# Altium schematic symbol library MH_DA_THU_VIEN_16122016.SchLib: 853 symbols (part 3 of 5)
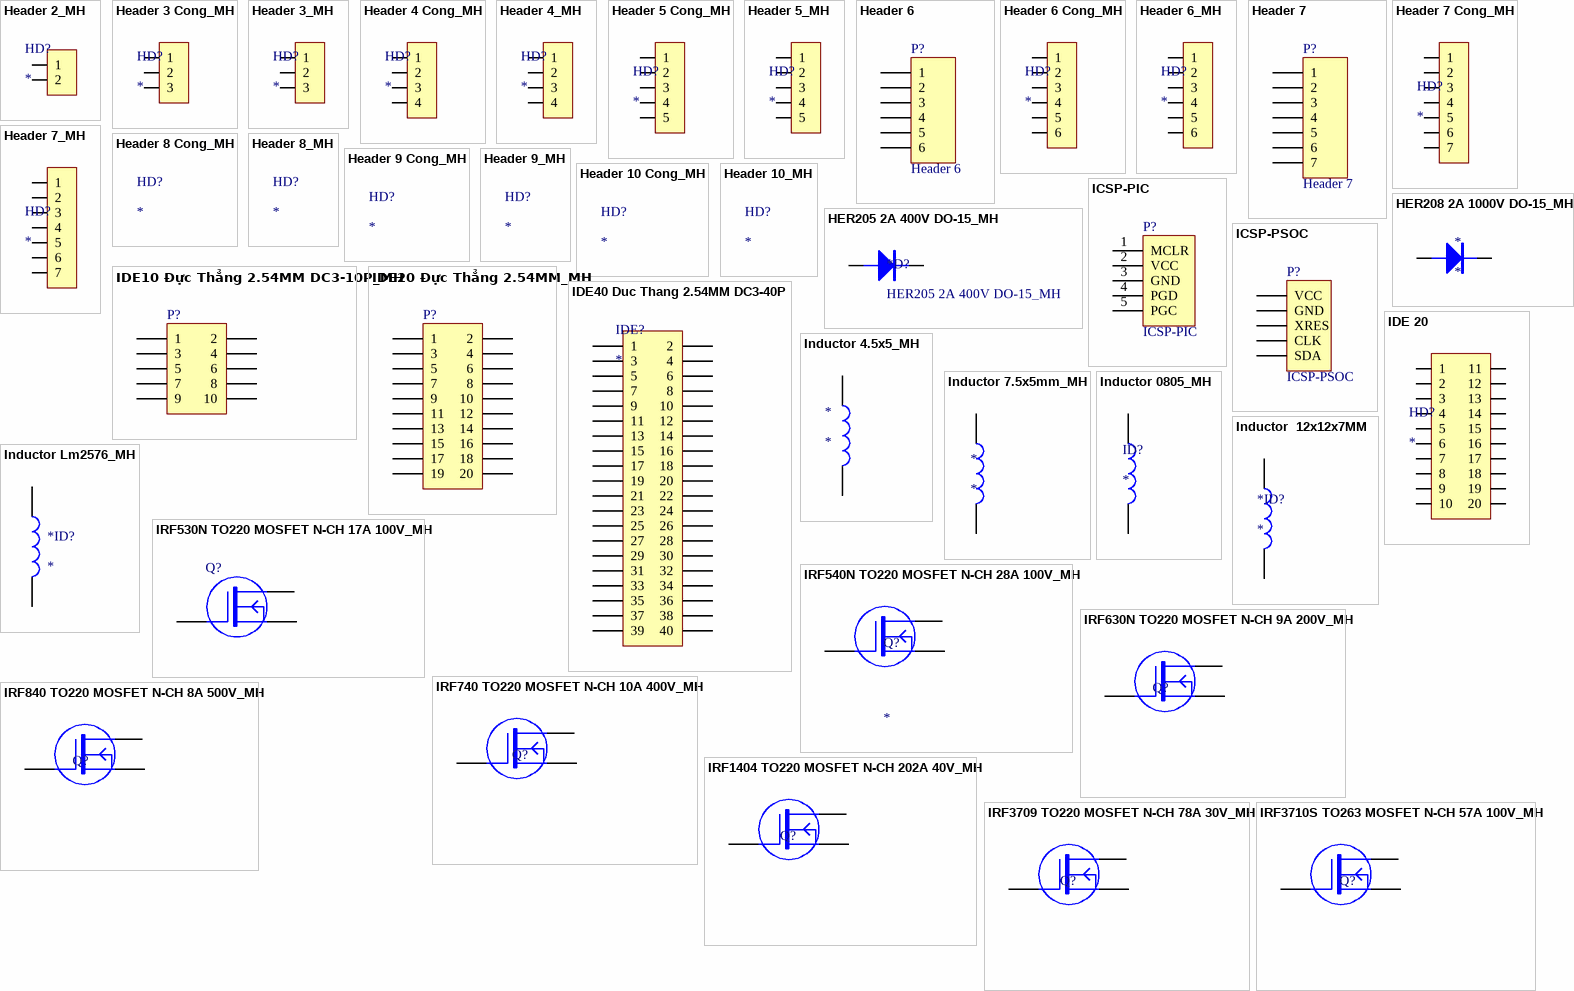
[diagram p42: symbols Header 2_MH to IRF3710S TO263 MOSFET N-CH 57A 100V_MH]

## IRF740 TO220 MOSFET N-CH 10A 400V_MH
designator Q?
footprint G_D_S_TO220
pins: 1 G "1", 2 D, 3 S

## IRF840 TO220 MOSFET N-CH 8A 500V_MH
designator Q?
footprint G_D_S_TO220
pins: 1 G "1", 2 D, 3 S

## IRF1404 TO220 MOSFET N-CH 202A 40V_MH
designator Q?
footprint G_D_S_TO220
pins: 1 G "1", 2 D, 3 S

## IRF3709 TO220 MOSFET N-CH 78A 30V_MH
designator Q?
footprint G_D_S_TO220
pins: 1 G "1", 2 D, 3 S

## IRF3710S TO263 MOSFET N-CH 57A 100V_MH
designator Q?
footprint TO-263
pins: 1 G "1", 2 D, 3 S

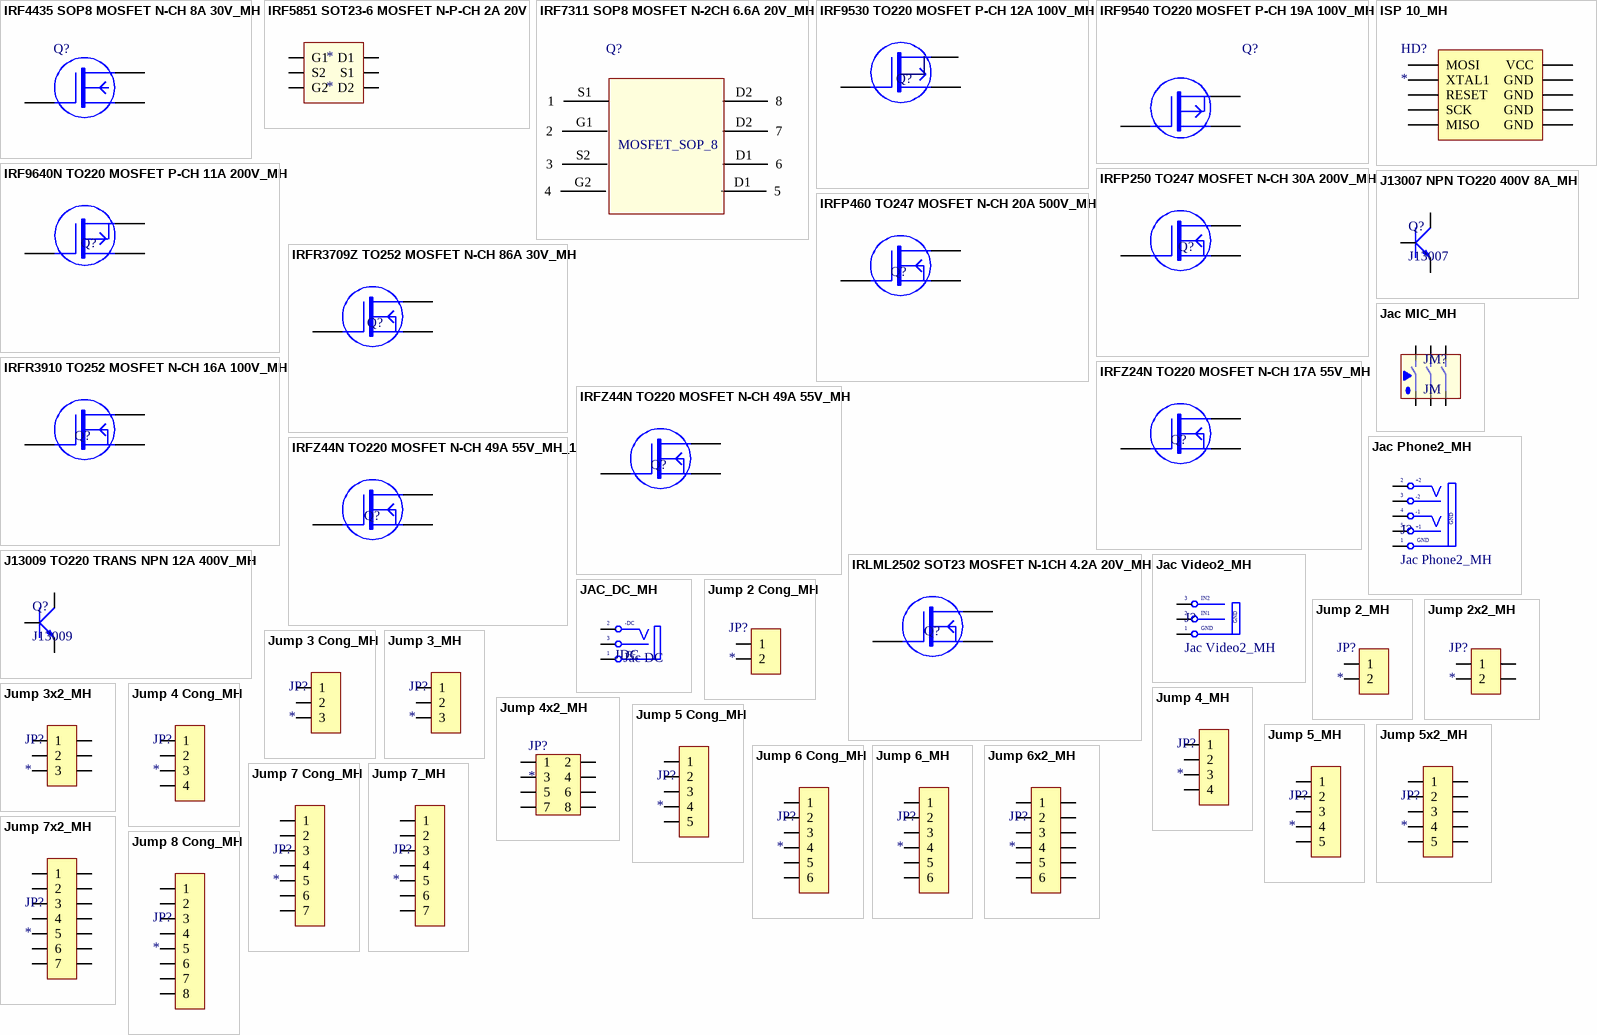
[diagram p17: symbols IRF4435 SOP8 MOSFET N-CH 8A 30V_MH to Jump 8 Cong_MH]

## IRF4435 SOP8 MOSFET N-CH 8A 30V_MH
designator Q?
footprint SOP 8
pins: 1 G "1", 2 D, 3 S

## IRF5851 SOT23-6 MOSFET N-P-CH 2A 20V
designator *
footprint SOP23-6
pins: 1 G1, 2 S2, 3 G2, 6 D2, 8 D1, ?1 S1

## IRF7311 SOP8 MOSFET N-2CH 6.6A 20V_MH
designator Q?
footprint SOP 8
pins: D1 5, D1 6, D2 7, D2 8, G1 2, G2 4, S1 1, S2 3
text: MOSFET_SOP_8

## IRF9530 TO220 MOSFET P-CH 12A 100V_MH
designator Q?
footprint G_D_S_TO220
pins: 1 G "1", 2 D, 3 S

## IRF9540 TO220 MOSFET P-CH 19A 100V_MH
designator Q?
footprint G_D_S_TO220
pins: 1 G "1", 2 D, 3 S

## IRF9640N TO220 MOSFET P-CH 11A 200V_MH
designator Q?
footprint G_D_S_TO220
pins: 1 G "1", 2 D, 3 S

## IRFP250 TO247 MOSFET N-CH 30A 200V_MH
designator Q?
footprint G_D_S_TO247.
pins: 1 G "1", 2 D, 3 S

## IRFP460 TO247 MOSFET N-CH 20A 500V_MH
designator Q?
footprint G_D_S_TO247.
pins: 1 G "1", 2 D, 3 S

## IRFR3709Z TO252 MOSFET N-CH 86A 30V_MH
designator Q?
footprint TO-263
pins: 1 G "1", 2 D, 3 S

## IRFR3910 TO252 MOSFET N-CH 16A 100V_MH
designator Q?
footprint TO-252
pins: 1 G "1", 2 D, 3 S

## IRFZ24N TO220 MOSFET N-CH 17A 55V_MH
designator Q?
footprint G_D_S_TO220
pins: 1 G "1", 2 D, 3 S

## IRFZ44N TO220 MOSFET N-CH 49A 55V_MH
designator Q?
footprint G_D_S_TO220
pins: 1 G "1", 2 D, 3 S

## IRFZ44N TO220 MOSFET N-CH 49A 55V_MH_1
designator Q?
footprint G_D_S_TO220
footprint SOT233
pins: 1 G "1", 2 D, 3 S

## IRLML2502 SOT23 MOSFET N-1CH 4.2A 20V_MH
designator Q?
footprint SOT23 (SOT-23; 3 Leads; Body 3.1 x 2.5 mm, inc. leads (LxW max), Alternate Lead Configuration)
pins: 1 G "1", 2 D, 3 S

## ISP 10_MH
designator HD?
IDE header 10P
footprint CABLE 10 (Connector; Header; 5x2 Position)
pins: 1 MOSI, 2 VCC (power), 3 XTAL1, 4 GND, 5 RESET, 6 GND, 7 SCK, 8 GND, 9 MISO, 10 GND

## J13007 NPN TO220 400V 8A_MH
designator Q?, comment J13007
footprint TO220
pins: 1 B, 2 C, 3 E

## J13009 TO220 TRANS NPN 12A 400V_MH
designator Q?, comment J13009
footprint TO220
pins: 1 B, 2 C, 3 E

## Jac MIC_MH
designator JM?, comment JM
Jac Micro; Value: Jac MIC to 6 pin
footprint MIC6 (Jac Mic 6 pin to)
pins: 1, 2, 3, 4, 5, 6

## Jac Phone2_MH
designator J?
Jac Phone Stereo; Creat by: VanDungEvn@Gmail.com
footprint JacPhone2 (Jac Phone Stereo)
footprint Jac_Phone2 (Jac Phone Stereo)
pins: 1 GND "Tip", 2 TN "Tip Normal (Break Contact)", 3 S (power) "Sleeve (Ground)", 4 S1 "Tip Normal (Break Contact)", 5 S1 (power) "Sleeve (Ground)"
text: +2; -2; -1; +1

## Jac Video2_MH
designator J?
Jac Video Stereo
footprint Jac Video2 (Jac Video Stereo)
pins: 1 GND "Tip", 2 S1 (power) "Sleeve (Ground)", 3 S2 "Tip Normal (Break Contact)"
text: IN2; IN1

## JAC_DC_MH
designator JDC, comment Jac DC
Jac DC input; Value: Jac DC
footprint DC-IN
pins: 1 T "Tip", 2 TN "Tip Normal (Break Contact)", 3 S (power) "Sleeve (Ground)"
text: -DC; +DC

## Jump 2 Cong_MH
designator JP?
Jump 2P 2.54 Cong
footprint Jump 2 Cong (Jump 2P 2.54 Cong)
pins: 1, 2

## Jump 2_MH
designator JP?
Jump 2P 2.54
footprint Jump 2 (Jump 2P 2.54)
pins: 1, 2

## Jump 2x2_MH
designator JP?
Jump 2x2P 2.54
footprint Jump 2x2
pins: 1, 2, 3, 4

## Jump 3 Cong_MH
designator JP?
Jump 2P 2.54 Cong
footprint Jump 3 Cong
pins: 1, 2, 3

## Jump 3_MH
designator JP?
Jump 3P 2.54
footprint Jump 3 (Jump 3P 2.54)
pins: 1, 2, 3

## Jump 3x2_MH
designator JP?
Jump 3x2P 2.54
footprint Jump 3x2
pins: 1, 2, 3, 4, 5, 6

## Jump 4 Cong_MH
designator JP?
Jump 4P 2.54 Cong
footprint Jump 4 Cong
pins: 1, 2, 3, 4

## Jump 4_MH
designator JP?
Jump 4P 2.54
footprint Jump 4
pins: 1, 2, 3, 4

## Jump 4x2_MH
designator JP?
Jump 4x2P 2.54
footprint jp4x2
pins: 1, 2, 3, 4, 5, 6, 7, 8

## Jump 5 Cong_MH
designator JP?
Jump 5P 2.54 Cong
footprint Jump 5 Cong
pins: 1, 2, 3, 4, 5

## Jump 5_MH
designator JP?
Jump 5P 2.54
footprint Jump 5
pins: 1, 2, 3, 4, 5

## Jump 5x2_MH
designator JP?
Jump 5x2P 2.54
footprint Jump 5x2
pins: 1, 2, 3, 4, 5, 6, 7, 8, 9, 10

## Jump 6 Cong_MH
designator JP?
Jump 6P 2.54 Cong
footprint Jump 6 Cong
pins: 1, 2, 3, 4, 5, 6

## Jump 6_MH
designator JP?
Jump 6P 2.54
footprint Jump 6
pins: 1, 2, 3, 4, 5, 6

## Jump 6x2_MH
designator JP?
Jump 6x2P 2.54
footprint Jump 6x2
pins: 1, 2, 3, 4, 5, 6, 7, 8, 9, 10, 11, 12

## Jump 7 Cong_MH
designator JP?
Jump 7P 2.54 Cong
footprint Jump 7 Cong
pins: 1, 2, 3, 4, 5, 6, 7

## Jump 7_MH
designator JP?
Jump 7P 2.54
footprint Jump 7
pins: 1, 2, 3, 4, 5, 6, 7

## Jump 7x2_MH
designator JP?
Jump 7x2P 2.54
footprint Jump 7x2
pins: 1, 2, 3, 4, 5, 6, 7, 8, 9, 10, 11, 12, 13, 14

## Jump 8 Cong_MH
designator JP?
Jump 8P 2.54 Cong
footprint Jump 8 Cong
pins: 1, 2, 3, 4, 5, 6, 7, 8

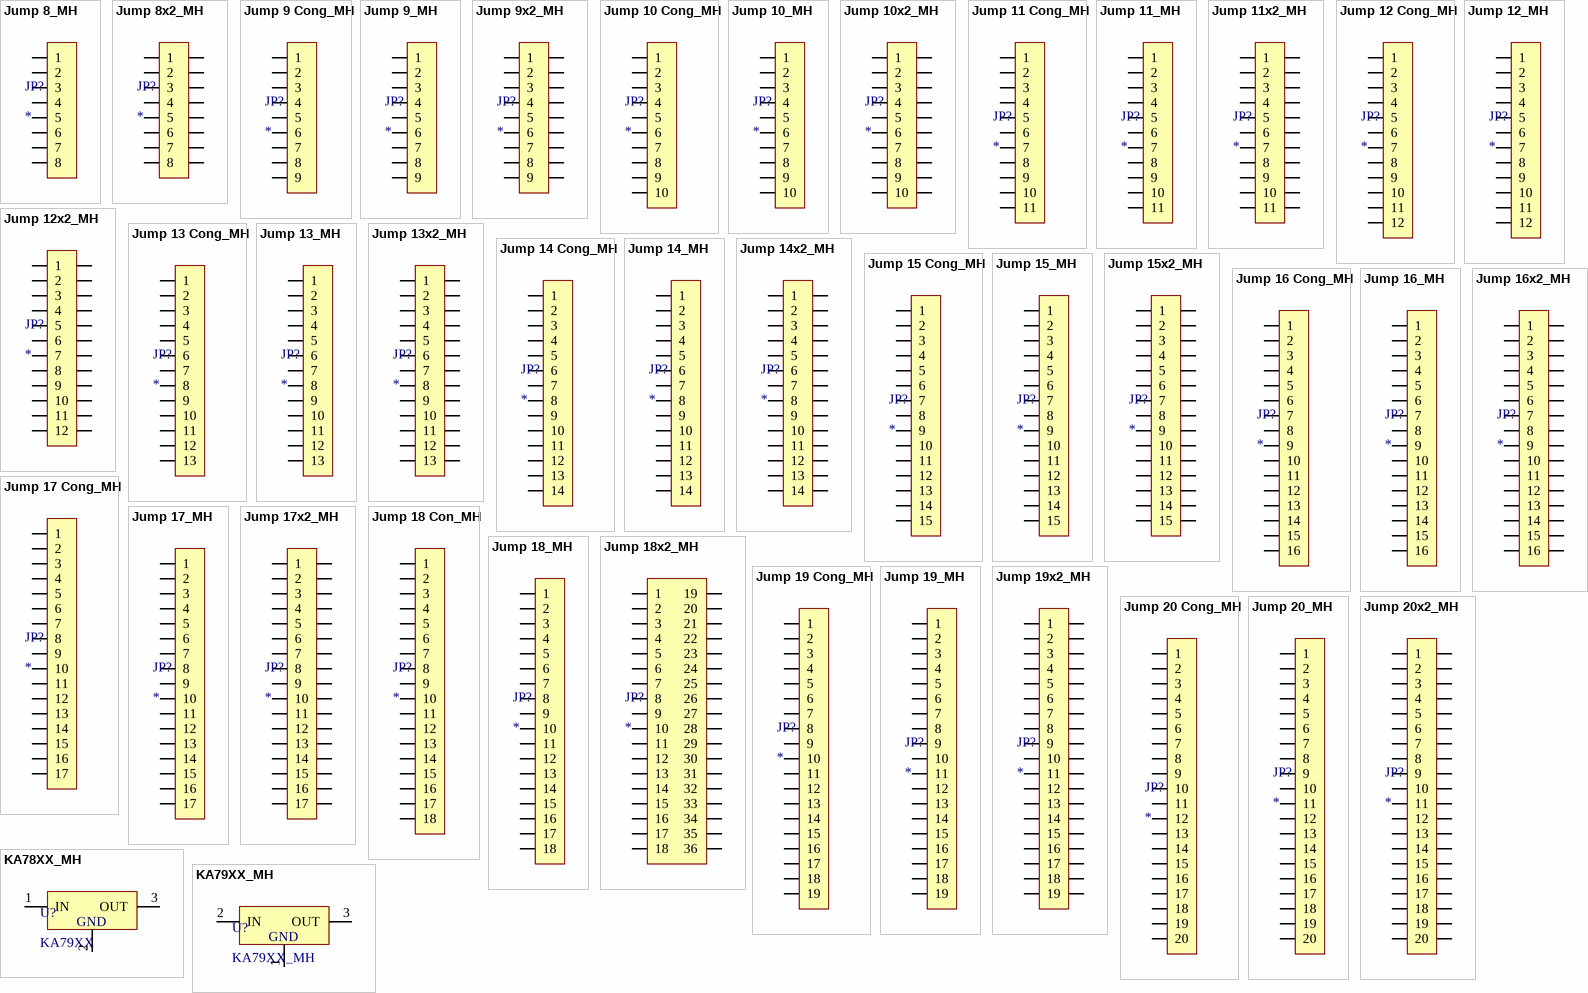
[diagram p18: symbols Jump 8_MH to KA79XX_MH]

## Jump 8_MH
designator JP?
Jump 8P 2.54
footprint Jump 8
pins: 1, 2, 3, 4, 5, 6, 7, 8

## Jump 8x2_MH
designator JP?
Jump 8x2P 2.54
footprint Jump 8x2
pins: 1, 2, 3, 4, 5, 6, 7, 8, 9, 10, 11, 12, 13, 14, 15, 16

## Jump 9 Cong_MH
designator JP?
Jump 9P 2.54 Cong
footprint Jump 9 Cong
pins: 1, 2, 3, 4, 5, 6, 7, 8, 9

## Jump 9_MH
designator JP?
Jump 9P 2.54
footprint Jump 9
pins: 1, 2, 3, 4, 5, 6, 7, 8, 9

## Jump 9x2_MH
designator JP?
Jump 9x2P 2.54
footprint Jump 9x2
pins: 1, 2, 3, 4, 5, 6, 7, 8, 9, 10, 11, 12, 13, 14, 15, 16, 17, 18

## Jump 10 Cong_MH
designator JP?
Jump 10 2.54 Cong
footprint Jump 10 Cong
pins: 1, 2, 3, 4, 5, 6, 7, 8, 9, 10

## Jump 10_MH
designator JP?
Jump 10P 2.54
footprint Jump 10
pins: 1, 2, 3, 4, 5, 6, 7, 8, 9, 10

## Jump 10x2_MH
designator JP?
Jump 10x2P 2.54
footprint Jump 10x2
pins: 1, 2, 3, 4, 5, 6, 7, 8, 9, 10, 11, 12, 13, 14, 15, 16, 17, 18, 19, 20

## Jump 11 Cong_MH
designator JP?
Jump 11P 2.54 Cong
footprint Jump 11 Cong
pins: 1, 2, 3, 4, 5, 6, 7, 8, 9, 10, 11

## Jump 11_MH
designator JP?
Jump 11P 2.54
footprint Jump 11
pins: 1, 2, 3, 4, 5, 6, 7, 8, 9, 10, 11

## Jump 11x2_MH
designator JP?
Jump 11x2P 2.54
footprint Jump 11x2
pins: 1, 2, 3, 4, 5, 6, 7, 8, 9, 10, 11, 12, 13, 14, 15, 16, 17, 18, 19, 20, 21, 22

## Jump 12 Cong_MH
designator JP?
Jump 12P 2.54 Cong
footprint Jump 12 Cong
pins: 1, 2, 3, 4, 5, 6, 7, 8, 9, 10, 11, 12

## Jump 12_MH
designator JP?
Jump 12P 2.54
footprint Jump 12
pins: 1, 2, 3, 4, 5, 6, 7, 8, 9, 10, 11, 12

## Jump 12x2_MH
designator JP?
Jump 12x2P 2.54
footprint Jump 12x2
pins: 1, 2, 3, 4, 5, 6, 7, 8, 9, 10, 11, 12, 13, 14, 15, 16, 17, 18, 19, 20, 21, 22, 23, 24

## Jump 13 Cong_MH
designator JP?
Jump 13P 2.54 Cong
footprint Jump 13 Cong
pins: 1, 2, 3, 4, 5, 6, 7, 8, 9, 10, 11, 12, 13

## Jump 13_MH
designator JP?
Jump 13P 2.54
footprint Jump 13
pins: 1, 2, 3, 4, 5, 6, 7, 8, 9, 10, 11, 12, 13

## Jump 13x2_MH
designator JP?
Jump 13x2P 2.54
footprint Jump 13x2
pins: 1, 2, 3, 4, 5, 6, 7, 8, 9, 10, 11, 12, 13, 14, 15, 16, 17, 18, 19, 20, 21, 22, 23, 24, 25, 26

## Jump 14 Cong_MH
designator JP?
Jump 14P 2.54 Cong
footprint Jump 14 Cong
pins: 1, 2, 3, 4, 5, 6, 7, 8, 9, 10, 11, 12, 13, 14

## Jump 14_MH
designator JP?
Jump 14P 2.54
footprint Jump 14
pins: 1, 2, 3, 4, 5, 6, 7, 8, 9, 10, 11, 12, 13, 14

## Jump 14x2_MH
designator JP?
Jump 14x2P 2.54
footprint Jump 14x2
pins: 1, 2, 3, 4, 5, 6, 7, 8, 9, 10, 11, 12, 13, 14, 15, 16, 17, 18, 19, 20, 21, 22, 23, 24, 25, 26, 27, 28

## Jump 15 Cong_MH
designator JP?
Jump 15P 2.54 Cong
footprint Jump 15 Cong
pins: 1, 2, 3, 4, 5, 6, 7, 8, 9, 10, 11, 12, 13, 14, 15

## Jump 15_MH
designator JP?
Jump 15P 2.54
footprint Jump 15
pins: 1, 2, 3, 4, 5, 6, 7, 8, 9, 10, 11, 12, 13, 14, 15

## Jump 15x2_MH
designator JP?
Jump 15x2P 2.54
footprint Jump 15x2
pins: 1, 2, 3, 4, 5, 6, 7, 8, 9, 10, 11, 12, 13, 14, 15, 16, 17, 18, 19, 20, 21, 22, 23, 24, 25, 26, 27, 28, 29, 30

## Jump 16 Cong_MH
designator JP?
Jump 16P 2.54 Cong
footprint Jump 16 Cong
pins: 1, 2, 3, 4, 5, 6, 7, 8, 9, 10, 11, 12, 13, 14, 15, 16

## Jump 16_MH
designator JP?
Jump 16P 2.54
footprint Jump 16
pins: 1, 2, 3, 4, 5, 6, 7, 8, 9, 10, 11, 12, 13, 14, 15, 16

## Jump 16x2_MH
designator JP?
Jump 16x2P 2.54
footprint Jump 16x2
pins: 1, 2, 3, 4, 5, 6, 7, 8, 9, 10, 11, 12, 13, 14, 15, 16, 17, 18, 19, 20, 21, 22, 23, 24, 25, 26, 27, 28, 29, 30, 31, 32

## Jump 17 Cong_MH
designator JP?
Jump 17P 2.54 Cong
pins: 1, 2, 3, 4, 5, 6, 7, 8, 9, 10, 11, 12, 13, 14, 15, 16, 17

## Jump 17_MH
designator JP?
Jump 17P 2.54
footprint Jump 17
pins: 1, 2, 3, 4, 5, 6, 7, 8, 9, 10, 11, 12, 13, 14, 15, 16, 17

## Jump 17x2_MH
designator JP?
Jump 17x2P 2.54
footprint Jump 17x2
pins: 1, 2, 3, 4, 5, 6, 7, 8, 9, 10, 11, 12, 13, 14, 15, 16, 17, 18, 19, 20, 21, 22, 23, 24, 25, 26, 27, 28, 29, 30, 31, 32, 33, 34

## Jump 18 Con_MH
designator JP?
Jump 18P 2.54 Cong
footprint Jump 18 Cong
pins: 1, 2, 3, 4, 5, 6, 7, 8, 9, 10, 11, 12, 13, 14, 15, 16, 17, 18

## Jump 18_MH
designator JP?
Jump 18P 2.54
footprint Jump 18
pins: 1, 2, 3, 4, 5, 6, 7, 8, 9, 10, 11, 12, 13, 14, 15, 16, 17, 18

## Jump 18x2_MH
designator JP?
Jump 18x2P 2.54
footprint Jump 18x2
pins: 1, 2, 3, 4, 5, 6, 7, 8, 9, 10, 11, 12, 13, 14, 15, 16, 17, 18, 19, 20, 21, 22, 23, 24, 25, 26, 27, 28, 29, 30, 31, 32, 33, 34, 35, 36

## Jump 19 Cong_MH
designator JP?
Jump 19P 2.54 Cong
footprint Jump 19 Cong
pins: 1, 2, 3, 4, 5, 6, 7, 8, 9, 10, 11, 12, 13, 14, 15, 16, 17, 18, 19

## Jump 19_MH
designator JP?
Jump 19P 2.54
footprint Jump 19
pins: 1, 2, 3, 4, 5, 6, 7, 8, 9, 10, 11, 12, 13, 14, 15, 16, 17, 18, 19

## Jump 19x2_MH
designator JP?
Jump 19x2P 2.54
footprint Jump 19x2
pins: 1, 2, 3, 4, 5, 6, 7, 8, 9, 10, 11, 12, 13, 14, 15, 16, 17, 18, 19, 20, 21, 22, 23, 24, 25, 26, 27, 28, 29, 30, 31, 32, 33, 34, 35, 36, 37, 38

## Jump 20 Cong_MH
designator JP?
Jump 20P 2.54 Cong_MH
footprint Jump 20 Cong
pins: 1, 2, 3, 4, 5, 6, 7, 8, 9, 10, 11, 12, 13, 14, 15, 16, 17, 18, 19, 20

## Jump 20_MH
designator JP?
Jump 20P 2.54
footprint Jump 20
pins: 1, 2, 3, 4, 5, 6, 7, 8, 9, 10, 11, 12, 13, 14, 15, 16, 17, 18, 19, 20

## Jump 20x2_MH
designator JP?
Jump 20x2P 2.54
footprint Jump 20x2
pins: 1, 2, 3, 4, 5, 6, 7, 8, 9, 10, 11, 12, 13, 14, 15, 16, 17, 18, 19, 20, 21, 22, 23, 24, 25, 26, 27, 28, 29, 30, 31, 32, 33, 34, 35, 36, 37, 38, 39, 40

## KA78XX_MH
designator U?, comment KA79XX
1A Regulator
footprint TO-220
pins: 1 IN, 2, 3 OUT
text: GND

## KA79XX_MH
designator U?
1A Regulator
footprint TO-220
pins: 1, 2 IN, 3 OUT
text: GND

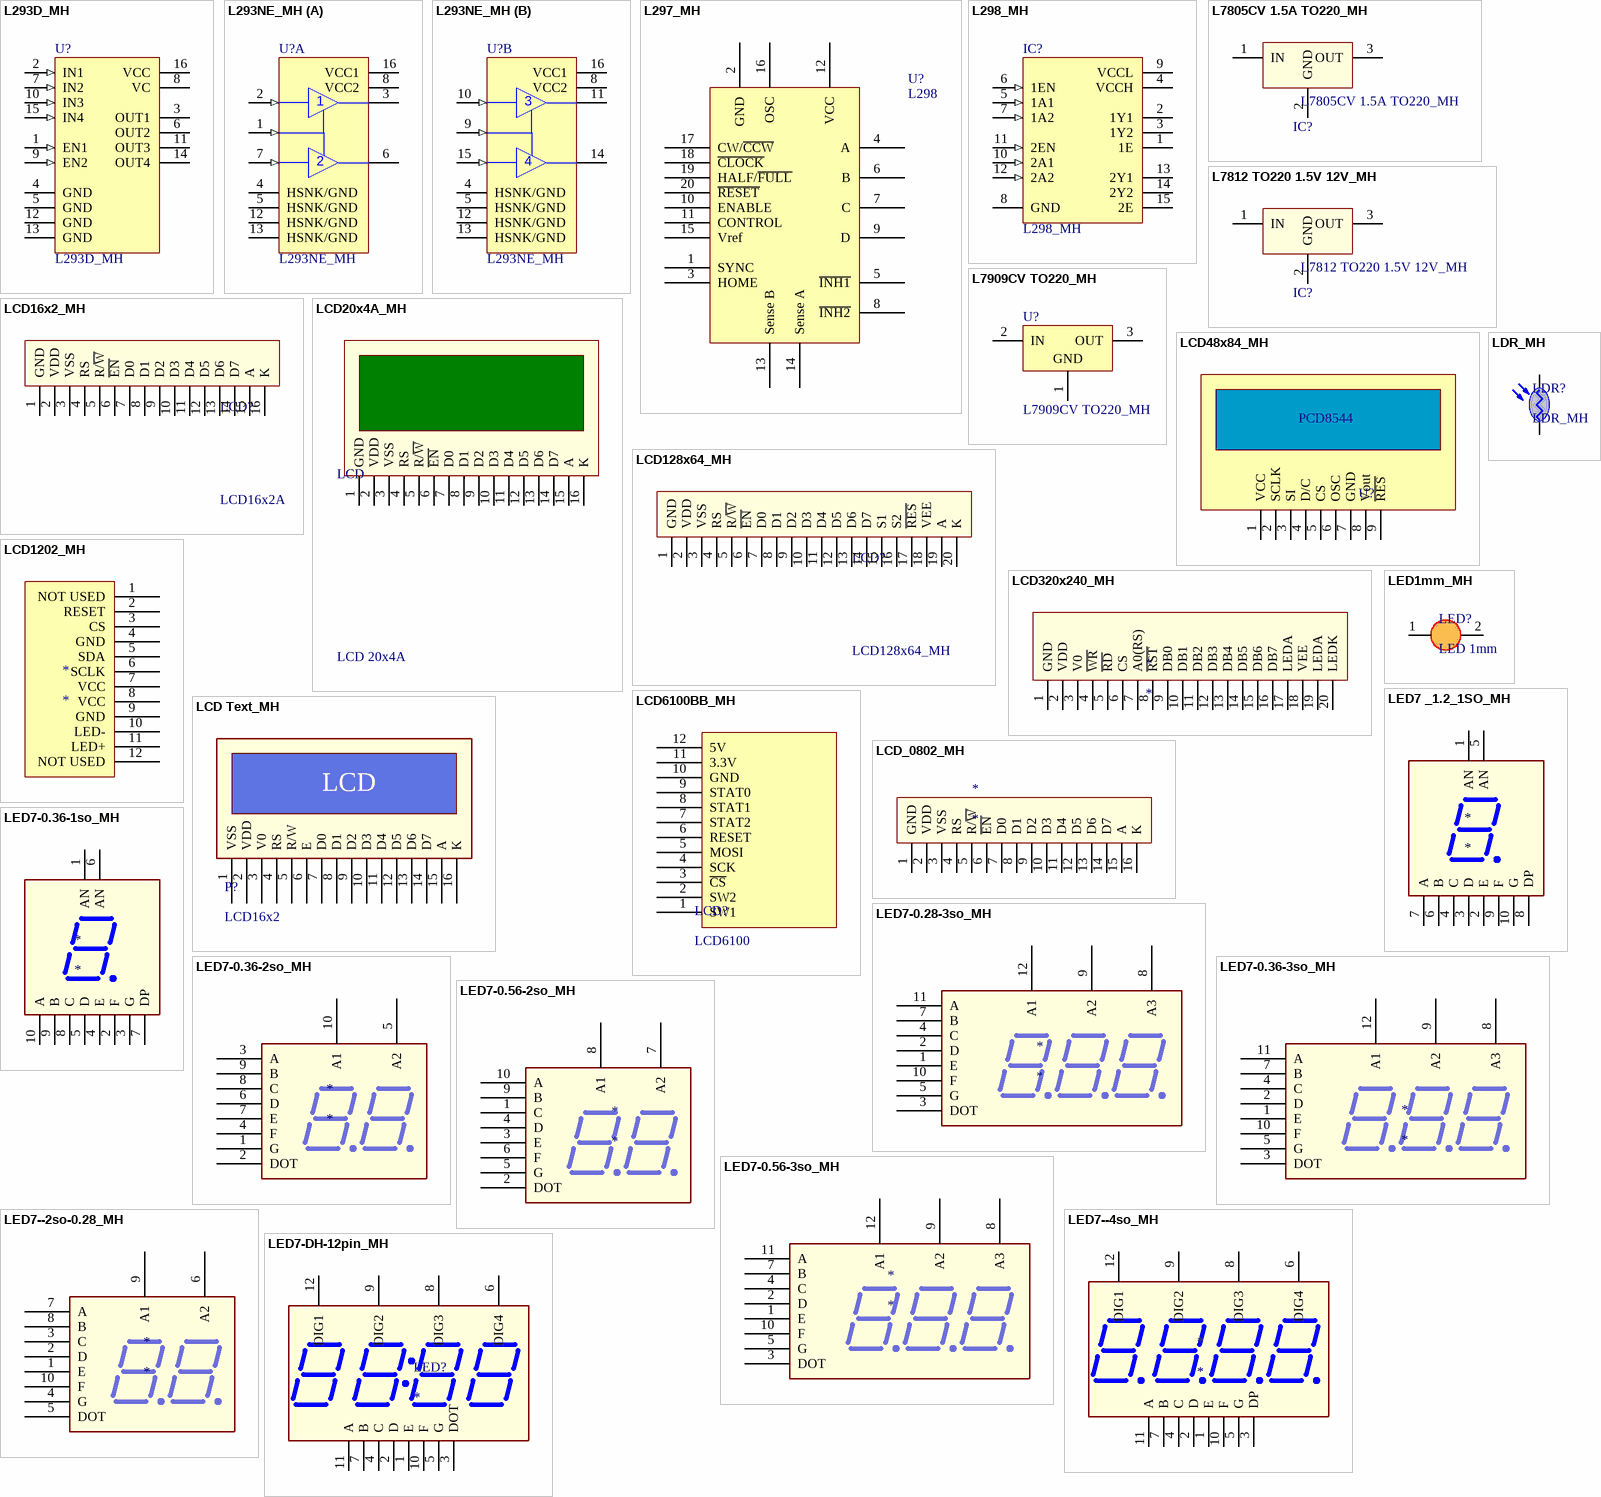
[diagram p19: symbols L293D_MH to LED7-DH-12pin_MH]

## L293D_MH
designator U?
Push-Pull Four Channel Driver With Diode; Published: 8-Jun-2000; LatestRevisionDate: 06-Jun-2005; LatestRevisionNote: Stylized 3D Model Added.; DatasheetVersion: Jun-1996; PackageVersion: Apr-1996; PackageReference: DIP16; Publisher: Altium Limited; PackageDescription: DIP; 16 Leads; Row Spacing 7.62 mm; Pitch 2.54 mm; ComponentLink1Description: Manufacturer Link; ComponentLink1URL: http://www.st.com/; ComponentLink2Description: Datasheet; ComponentLink2URL: http://www.st.com/stonline/products/literature/ds/1330/l293d.pdf
footprint DIP.100/16/W.300/L.900
pins: 1 EN1 (in), 2 IN1 (in), 3 OUT1 (hiz), 4 GND (power), 5 GND (power), 6 OUT2 (hiz), 7 IN2 (in), 8 VC (power), 9 EN2 (in), 10 IN3 (in), 11 OUT3 (hiz), 12 GND (power), 13 GND (power), 14 OUT4 (hiz), 15 IN4 (in), 16 VCC (power)

## L293NE_MH
designator U?
Quadruple Half-H Driver; Published: 15-May-2002; LatestRevisionDate: 04-Mar-2005; LatestRevisionNote: Stylized 3D Model Added.; DatasheetVersion: May-1990; PackageVersion: 1991; PackageReference: NE016; Publisher: Altium Limited; PackageDescription: DIP; 16 Leads; Row Spacing 7.62 mm; Pitch 2.54 mm; Code_JEDEC: MS-001-BB; ComponentLink1Description: Manufacturer Link; ComponentLink1URL: http://www.ti.com/; ComponentLink2Description: Datasheet; ComponentLink2URL: http://www-s.ti.com/sc/ds/l293.pdf
footprint DIP16 (16 PIN, W 300mil, Pin to pin 100mil)
pins on every part: 4 HSNK/GND (power), 5 HSNK/GND (power), 8 VCC2 (power), 12 HSNK/GND (power), 13 HSNK/GND (power), 16 VCC1 (power)
part A pins: 1 1,2EN (in), 2 1A (in), 3 1Y (hiz), 6 2Y (hiz), 7 2A (in)
part B pins: 9 3,4EN (in), 10 3A (in), 11 3Y (hiz), 14 4Y (hiz), 15 4A (in)

## L297_MH
designator U?, comment L298
Drive Step Motor
footprint DIP20
pins: 1 SYNC, 2 GND, 3 HOME, 4 A, 5 ~{INH1}, 6 B, 7 C, 8 ~{INH2}, 9 D, 10 ENABLE, 11 CONTROL, 12 VCC, 13 Sense B, 14 Sense A, 15 Vref, 16 OSC, 17 CW/~{CCW}, 18 ~{CLOCK}, 19 HALF/~{FULL}, 20 ~{RESET}

## L298_MH
designator IC?
Dual Full-H Driver Step Moto; Note: The tab is elec is connected to GND pin; Published: 15-May-2002; DatasheetVersion: Jun-1990; PackageReference: KV015; Publisher: Altium Limited; PackageDescription: TO, Thru-Hole, Vertical, Heatsink Mounted; 15 Bent Staggered Leads; Pitch 1.27 mm; ComponentLink1Description: Manufacturer Link; ComponentLink1URL: http://www.ti.com/
footprint TDA7294
pins: 1 1E, 2 1Y1 (hiz), 3 1Y2 (hiz), 4 VCCH (power), 5 1A1 (in), 6 1EN (in), 7 1A2 (in), 8 GND (power), 9 VCCL (power), 10 2A1 (in), 11 2EN (in), 12 2A2 (in), 13 2Y1 (hiz), 14 2Y2 (hiz), 15 2E

## L7805CV 1.5A TO220_MH
designator IC?
Value: LM7805
footprint TO220
pins: 1 IN, 2 GND, 3 OUT

## L7812 TO220 1.5V 12V_MH
designator IC?
Value: LM7805
footprint TO220
pins: 1 IN, 2 GND, 3 OUT

## L7909CV TO220_MH
designator U?
Note: Tab is connected to pin 3 (GND).; Published: 24-Aug-2001; LatestRevisionDate: 17-Jul-2002; LatestRevisionNote: Re-released for DXP Platform.; DatasheetVersion: Dec-1998; PackageVersion: Jun-1998; PackageReference: TO220ABN; Publisher: Altium Limited; PackageDescription: TO, Thru-Hole, Vertical, Heatsink Mounted; 3 In-Line Leads; Pitch 2.54 mm; Pin sequence 1, 3, 2; ComponentLink1Description: Manufacturer Link; ComponentLink1URL: http://www.st.com/
footprint TO220
pins: 1 GND (power), 2 IN (power), 3 OUT (power)

## LCD16x2_MH
designator LCD?, comment LCD16x2A
LCD dipslay 16 char, 2 line; Value: LCD16x2A
footprint LCD16X2N (LCD dipslay 16x2, 16 pin)
footprint LCD16X2 (LCD dipslay 16x2, 16 pin)
pins: 1 GND, 2 VDD, 3 VSS, 4 RS, 5 R/~{W}, 6 ~{EN}, 7 D0, 8 D1, 9 D2, 10 D3, 11 D4, 12 D5, 13 D6, 14 D7, 15 A, 16 K

## LCD20x4A_MH
designator LCD, comment LCD 20x4A
LCD dipslay 20 char, 4 line; Value: Jum 40; Value: LCD 20x4A
footprint LCD20X4A (LCD dipslay 20x4, 16 pin)
pins: 1 GND, 2 VDD, 3 VSS, 4 RS, 5 R/~{W}, 6 ~{EN}, 7 D0, 8 D1, 9 D2, 10 D3, 11 D4, 12 D5, 13 D6, 14 D7, 15 A, 16 K

## LCD48x84_MH
designator U?, comment PCD8544
LCD Graphic; Value: PCD8544
footprint CON9
pins: 1 VCC, 2 SCLK, 3 SI, 4 D/C, 5 CS, 6 OSC, 7 GND, 8 Vout, 9 ~{RES}

## LCD128x64_MH
designator LCD?
LCD Graphic 128x64; Value: LCD 128x64
footprint LCD128x64 (LCD Graphic 128x64, 20 pin)
pins: 1 GND, 2 VDD, 3 VSS, 4 RS, 5 R/~{W}, 6 ~{EN}, 7 D0, 8 D1, 9 D2, 10 D3, 11 D4, 12 D5, 13 D6, 14 D7, 15 S1, 16 S2, 17 ~{RES}, 18 VEE, 19 A, 20 K

## LCD320x240_MH
designator *
footprint LCD320240
pins: 1 GND, 2 VDD, 3 V0, 4 ~{WR}, 5 ~{RD}, 6 CS, 7 A0(RS), 8 ~{RST}, 9 DB0, 10 DB1, 11 DB2, 12 DB3, 13 DB4, 14 DB5, 15 DB6, 16 DB7, 17 LEDA, 18 VEE, 19 LEDA, 20 LEDK

## LCD1202_MH
designator *
footprint LCD_1202
pins: 1 NOT USED, 2 RESET, 3 CS, 4 GND, 5 SDA, 6 SCLK, 7 VCC, 8 VCC, 9 GND, 10 LED-, 11 LED+, 12 NOT USED

## LCD6100BB_MH
designator LCD?, comment LCD6100
footprint HDR1X12 (Connector; Header; 12 Position)
pins: 1 SW1, 2 SW2, 3 ~{CS}, 4 SCK, 5 MOSI, 6 RESET, 7 STAT2, 8 STAT1, 9 STAT0, 10 GND, 11 3.3V, 12 5V

## LCD Text_MH
designator P?, comment LCD16x2
footprint LCD16X2 (LCD 16x2)
footprint HDR1X16 (Connector; Header; 16 Position)
pins: 1 VSS, 2 VDD, 3 V0, 4 RS, 5 R/W, 6 E, 7 D0, 8 D1, 9 D2, 10 D3, 11 D4, 12 D5, 13 D6, 14 D7, 15 A, 16 K
text: LCD

## LCD_0802_MH
designator *
footprint LCD_0802
pins: 1 GND, 2 VDD, 3 VSS, 4 RS, 5 R/~{W}, 6 ~{EN}, 7 D0, 8 D1, 9 D2, 10 D3, 11 D4, 12 D5, 13 D6, 14 D7, 15 A, 16 K

## LDR_MH
designator LDR?
Quang Tro
footprint CDS (Footprint not found)
pins: 1 A, 2 K

## LED1mm_MH
designator LED?, comment LED 1mm
footprint Jump 2 (Jump 2P 2.54)
pins: 1 A, 2 K

## LED7 _1.2_1SO_MH
designator *
footprint LED7-1.2-1so
pins: 1 AN, 2 E, 3 D, 4 C, 5 AN, 6 B, 7 A, 8 DP, 9 F, 10 G

## LED7-0.28-3so_MH
designator *
footprint LED7-0.28-3so
pins: 1 E, 2 D, 3 DOT, 4 C, 5 G, 7 B, 8 A3, 9 A2, 10 F, 11 A, 12 A1

## LED7-0.36-1so_MH
designator *
footprint LED7-0.36-1so
pins: 1 AN, 2 F, 3 G, 4 E, 5 D, 6 AN, 7 DP, 8 C, 9 B, 10 A

## LED7-0.36-2so_MH
designator *
footprint LED7-0.36-2so
pins: 1 G, 2 DOT, 3 A, 4 F, 5 A2, 6 D, 7 E, 8 C, 9 B, 10 A1

## LED7-0.36-3so_MH
designator *
footprint LED7-0.36-3so
pins: 1 E, 2 D, 3 DOT, 4 C, 5 G, 7 B, 8 A3, 9 A2, 10 F, 11 A, 12 A1

## LED7-0.56-2so_MH
designator *
footprint LED7-0.56-2so
pins: 1 C, 2 DOT, 3 E, 4 D, 5 G, 6 F, 7 A2, 8 A1, 9 B, 10 A

## LED7-0.56-3so_MH
designator *
footprint LED7-0.56-3so
pins: 1 E, 2 D, 3 DOT, 4 C, 5 G, 7 B, 8 A3, 9 A2, 10 F, 11 A, 12 A1

## LED7--2so-0.28_MH
designator *
footprint LED7-0.28-2so
pins: 1 E, 2 D, 3 C, 4 G, 5 DOT, 6 A2, 7 A, 8 B, 9 A1, 10 F

## LED7--4so_MH
designator *
footprint LED7-0.28-4SO
footprint LED7-0.36-4so
pins: 1 E, 2 D, 3 DP, 4 C, 5 G, 6 DIG4, 7 B, 8 DIG3, 9 DIG2, 10 F, 11 A, 12 DIG1

## LED7-DH-12pin_MH
designator LED?
footprint LED7-0.28-4SO
footprint LED7-0.36-4so
footprint LED7-DH-0.56
pins: 1 E, 2 D, 3 DOT, 4 C, 5 G, 6 DIG4, 7 B, 8 DIG3, 9 DIG2, 10 F, 11 A, 12 DIG1

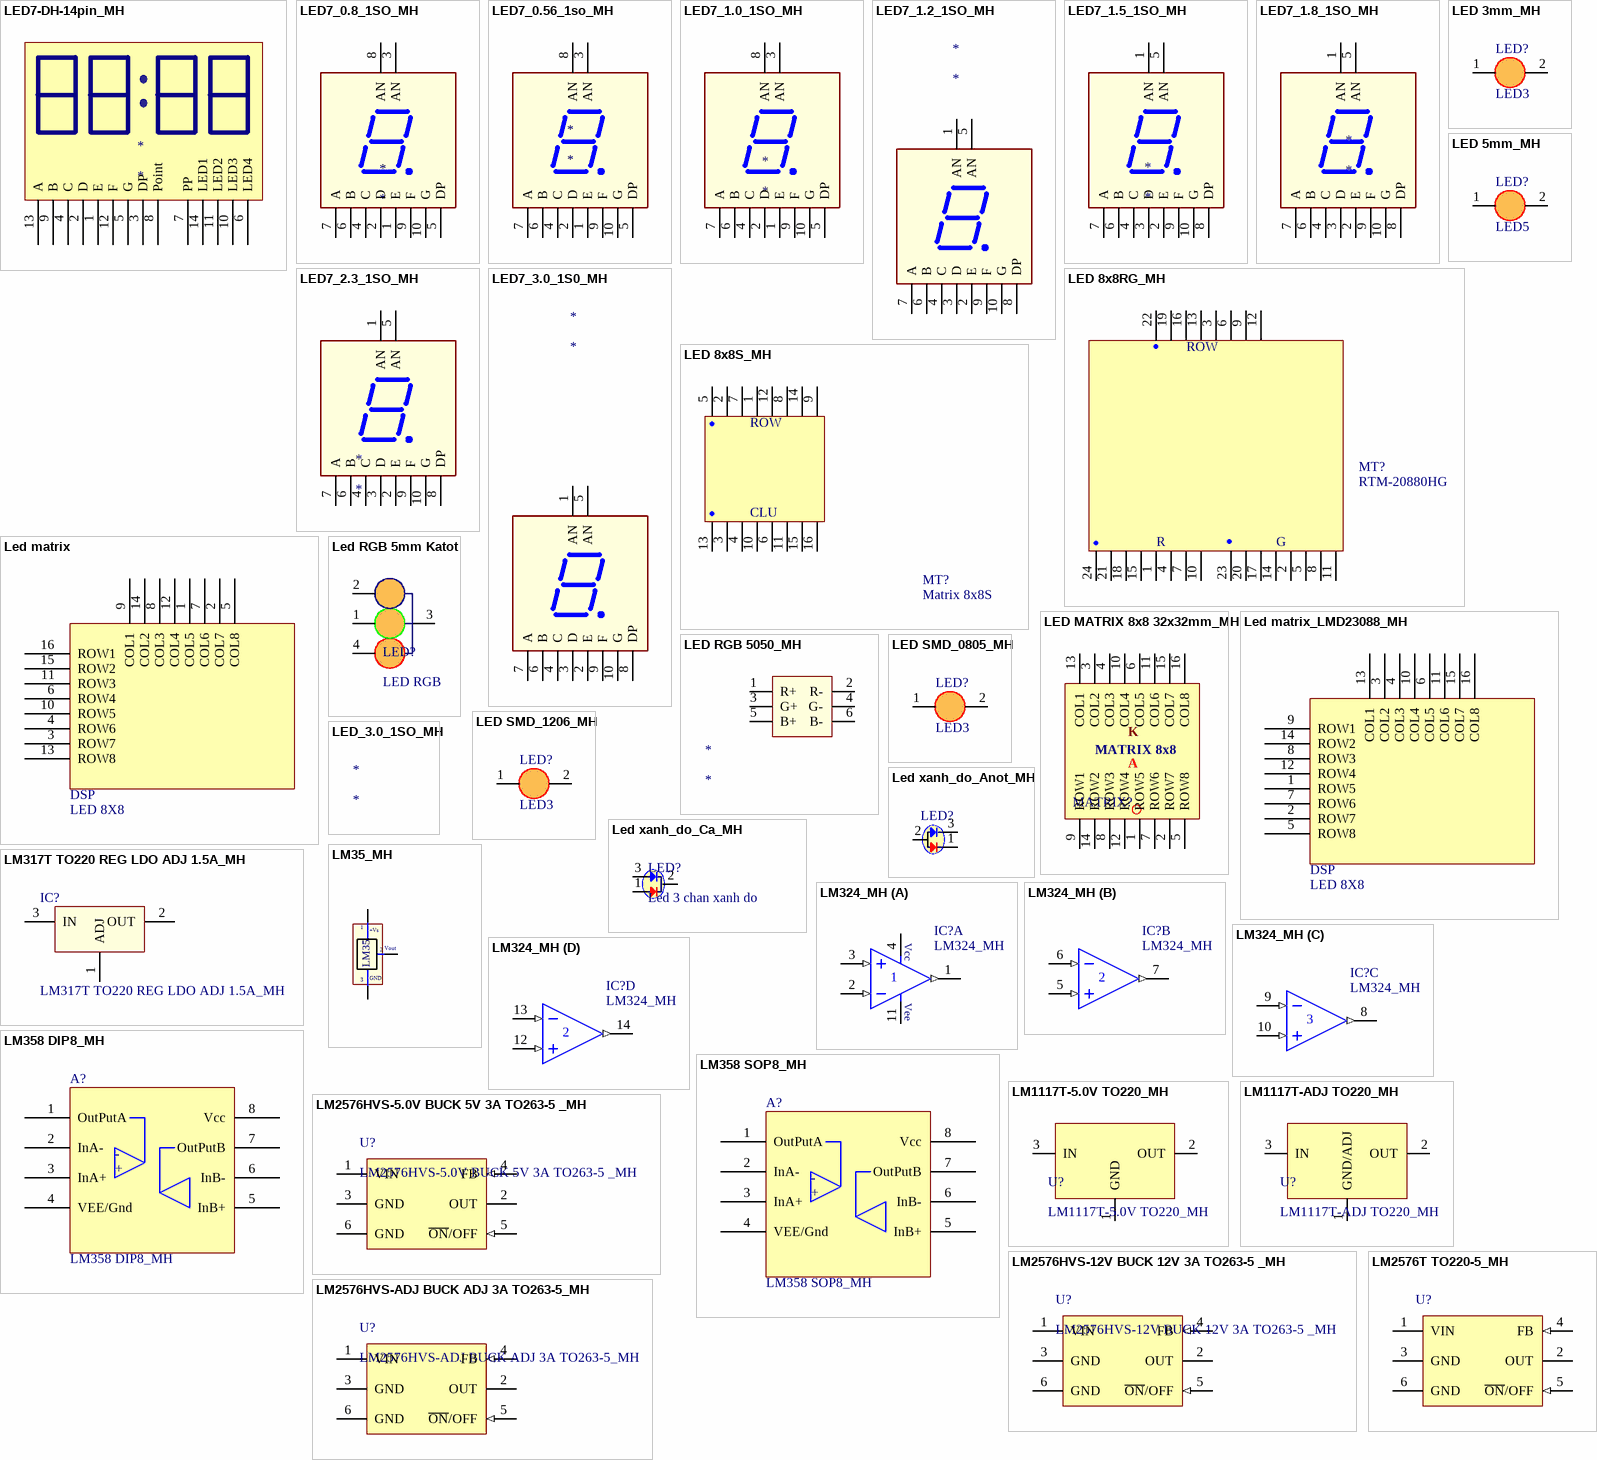
[diagram p20: symbols LED7-DH-14pin_MH to LM2576T TO220-5_MH]

## LED7-DH-14pin_MH
designator *
footprint LED7-DH-1.0
pins: 1 E, 2 D, 3 DP, 4 C, 5 G, 6 LED4, 7 PP, 8 Point, 9 B, 10 LED3, 11 LED2, 12 F, 13 A, 14 LED1

## LED7_0.8_1SO_MH
designator *
footprint LED7-0.8-1so
pins: 1 E, 2 D, 3 AN, 4 C, 5 DP, 6 B, 7 A, 8 AN, 9 F, 10 G

## LED7_0.56_1so_MH
designator *
footprint LED7-0.56-1so
pins: 1 E, 2 D, 3 AN, 4 C, 5 DP, 6 B, 7 A, 8 AN, 9 F, 10 G

## LED7_1.0_1SO_MH
designator *
footprint LED7-1.0-1so
pins: 1 E, 2 D, 3 AN, 4 C, 5 DP, 6 B, 7 A, 8 AN, 9 F, 10 G

## LED7_1.2_1SO_MH
designator *
footprint LED7-1.2-1so
pins: 1 AN, 2 E, 3 D, 4 C, 5 AN, 6 B, 7 A, 8 DP, 9 F, 10 G

## LED7_1.5_1SO_MH
designator *
footprint LED7-1.5-1so
pins: 1 AN, 2 E, 3 D, 4 C, 5 AN, 6 B, 7 A, 8 DP, 9 F, 10 G

## LED7_1.8_1SO_MH
designator *
footprint LED7-1.8-1so
pins: 1 AN, 2 E, 3 D, 4 C, 5 AN, 6 B, 7 A, 8 DP, 9 F, 10 G

## LED7_2.3_1SO_MH
designator *
footprint LED7-2.3-1so
pins: 1 AN, 2 E, 3 D, 4 C, 5 AN, 6 B, 7 A, 8 DP, 9 F, 10 G

## LED7_3.0_1S0_MH
designator *
footprint LED7-3.0-1so
pins: 1 AN, 2 E, 3 D, 4 C, 5 AN, 6 B, 7 A, 8 DP, 9 F, 10 G

## LED 3mm_MH
designator LED?, comment LED3
LED 3mm
footprint LED 3mm Do (Footprintf LED phi 3)
pins: 1 A, 2 K

## LED 5mm_MH
designator LED?, comment LED5
LED 5mm
footprint LED 5mm DO (LED 2 PIN, 5 ly , Only colour, pin to pin 110mil)
pins: 1 A, 2 K

## LED 8x8RG_MH
designator MT?, comment RTM-20880HG
Matrix 8x8, Two colour; Value: Matrix 8x8 two colour
footprint 8x8RG (Matran 8x8 2mau,Body 60 X 60mm)
pins: 1 R5, 2 G5, 3 H5, 4 R6, 5 G6, 6 H6, 7 R7, 8 G7, 9 H7, 10 R8, 11 G8, 12 H8, 13 H4, 14 G4, 15 R4, 16 H3, 17 G3, 18 R3, 19 H2, 20 G2, 21 R2, 22 H1, 23 G1, 24 R1
text: ROW; R; G

## LED 8x8S_MH
designator MT?, comment Matrix 8x8S
Matrix 8x8,  Single colour; Value: Matrix 8x8S
footprint Matrix SBM1388 (Matrix 8x8)
pins: 1 H4, 2 H2, 3 C2, 4 C3, 5 H1, 6 C5, 7 H3, 8 H6, 9 H8, 10 C4, 11 C6, 12 H5, 13 C1, 14 H7, 15 C7, 16 C8
text: ROW; CLU

## Led matrix
designator DSP, comment LED 8X8
LED MATRIX
footprint Matrix SBM1388 (Matrix 8x8)
pins: 1 COL5, 2 COL7, 3 ROW7, 4 ROW6, 5 COL8, 6 ROW4, 7 COL6, 8 COL3, 9 COL1, 10 ROW5, 11 ROW3, 12 COL4, 13 ROW8, 14 COL2, 15 ROW2, 16 ROW1

## LED MATRIX 8x8 32x32mm_MH
designator MATRIX?  (value not drawn)
Led Matrix 8x8 3MM 32x32MM (1 Mầu Anot)
footprint MATRIX 8x8 32x32mm
pins: 1 ROW5, 2 ROW7, 3 COL2, 4 COL3, 5 ROW8, 6 COL5, 7 ROW6, 8 ROW3, 9 ROW1, 10 COL4, 11 COL6, 12 ROW4, 13 COL1, 14 ROW2, 15 COL7, 16 COL8
text: K; MATRIX 8x8; A

## Led matrix_LMD23088_MH
designator DSP, comment LED 8X8
LED MATRIX
footprint Matrix LMD23088 (Matrix 8x8)
pins: 1 ROW5, 2 ROW7, 3 COL2, 4 COL3, 5 ROW8, 6 COL5, 7 ROW6, 8 ROW3, 9 ROW1, 10 COL4, 11 COL6, 12 ROW4, 13 COL1, 14 ROW2, 15 COL7, 16 COL8

## Led RGB 5mm Katot
designator LED?, comment LED RGB
Led RGB 5mm Katot
footprint LED 5mm RGB
pins: 1 A, 2 A, 3 K, 4 A

## LED RGB 5050_MH
designator *
footprint LED_5050
pins: 1 R+, 2 R-, 3 G+, 4 G-, 5 B+, 6 B-

## LED SMD_0805_MH
designator LED?, comment LED3
LED 3mm
footprint LED_0805
pins: 1 A, 2 K

## LED SMD_1206_MH
designator LED?, comment LED3
LED 3mm
footprint LED_SMD1206
pins: 1 A, 2 K

## Led xanh_do_Anot_MH
designator LED?, comment Led 3 chan xanh do Anot  (value not drawn)
LED 3 chan xanh + do Anot
footprint LED_phi 5_Xanh_Do (LED phi 5mm 2 mau xanh va do)
footprint LED_phi 5_Xanh_Do_2 (LED phi 5mm 2 mau xanh va do doc lap)
pins: 1 D, 2 Katot, 3 X

## Led xanh_do_Ca_MH
designator LED?, comment Led 3 chan xanh do
LED 3 chan xanh + do
footprint LED_phi 5_Xanh_Do (LED phi 5mm 2 mau xanh va do)
pins: 1 D, 2 Katot, 3 X

## LED_3.0_1SO_MH
designator *

## LM35_MH
designator U?
Teminal; Value: LM35
footprint TO92 (TO, Flat Index; 3 In-Line, Axial Leads; Body Dia. 4.8mm)
pins: 1 +Vs, 2 Vout, 3 -
text: GND

## LM317T TO220 REG LDO ADJ 1.5A_MH
designator IC?
Value: LM317
footprint TO220
pins: 1 ADJ, 2 OUT, 3 IN

## LM324_MH
designator IC?
Op x 4; Value: LM324
footprint DIP14
part A pins: 1 OUT (out), 2 IN- (in), 3 IN+ (in), 4 V+ (power), 11 V- (power)
part B pins: 5 IN+ (in), 6 IN- (in), 7 OUT (out)
part C pins: 8 OUT (out), 9 IN- (in), 10 IN+ (in)
part D pins: 12 IN+ (in), 13 IN- (in), 14 OUT (out)
part A text: Vcc; Vee

## LM358 DIP8_MH
designator A?
footprint DIP8
pins: 1 OutPutA, 2 InA-, 3 InA+, 4 VEE/Gnd, 5 InB+, 6 InB-, 7 OutPutB, 8 Vcc
text: -; +

## LM358 SOP8_MH
designator A?
footprint SOP 8
pins: 1 OutPutA, 2 InA-, 3 InA+, 4 VEE/Gnd, 5 InB+, 6 InB-, 7 OutPutB, 8 Vcc
text: -; +

## LM1117T-5.0V TO220_MH
designator U?
Creator: Nguyen Ba Bien; Website: http://group3i.net
footprint TO220F
pins: 1 GND, 2 OUT, 3 IN

## LM1117T-ADJ TO220_MH
designator U?
Creator: Nguyen Ba Bien; Website: http://group3i.net
footprint TO220
pins: 1 GND/ADJ, 2 OUT, 3 IN

## LM2576HVS-5.0V BUCK 5V 3A TO263-5 _MH
designator U?
PartNumber: LM2576T-5.0; Manufacturer: National Semiconductor; CompType: Switcher; PackageTopMarking: NSUZXYTT*LM2576T*-5.0 P+; PowerWise: N; FirstPublished: 4-Dec-2008; DatasheetVersion: Aug-2004; PackageVersion: revJ, Jan-1992; PackageReference: T05A; Publisher: Altium Limited; PackageDescription: TO-220, Molded, 5 Lead, Straight; RoHS: O; PinCount: 5; DigiKeyPartNumber: LM2576T-5.0-ND; Code_JEDEC: TO-220-AB; ComponentLink1Description: LM2576 Datasheet; ComponentLink1URL: http://www.national.com/ds/LM/LM2576.pdf; ComponentLink2Description: LM2576 Web Page; ComponentLink2URL: http://www.national.com/pf/LM/LM2576.html; ComponentLink3Description: T05A Package Page; ComponentLink3URL: http://www.national.com/packaging/folders/t05a.html
footprint TO263-5 (LM2576-SMD)
pins: 1 VIN (power), 2 OUT (power), 3 GND (power), 4 FB (in), 5 ~{ON}/OFF (in), 6 GND

## LM2576HVS-12V BUCK 12V 3A TO263-5 _MH
designator U?
PartNumber: LM2576T-5.0; Manufacturer: National Semiconductor; CompType: Switcher; PackageTopMarking: NSUZXYTT*LM2576T*-5.0 P+; PowerWise: N; FirstPublished: 4-Dec-2008; DatasheetVersion: Aug-2004; PackageVersion: revJ, Jan-1992; PackageReference: T05A; Publisher: Altium Limited; PackageDescription: TO-220, Molded, 5 Lead, Straight; RoHS: O; PinCount: 5; DigiKeyPartNumber: LM2576T-5.0-ND; Code_JEDEC: TO-220-AB; ComponentLink1Description: LM2576 Datasheet; ComponentLink1URL: http://www.national.com/ds/LM/LM2576.pdf; ComponentLink2Description: LM2576 Web Page; ComponentLink2URL: http://www.national.com/pf/LM/LM2576.html; ComponentLink3Description: T05A Package Page; ComponentLink3URL: http://www.national.com/packaging/folders/t05a.html
footprint TO263-5 (LM2576-SMD)
pins: 1 VIN (power), 2 OUT (power), 3 GND (power), 4 FB (in), 5 ~{ON}/OFF (in), 6 GND

## LM2576HVS-ADJ BUCK ADJ 3A TO263-5_MH
designator U?
PartNumber: LM2576T-5.0; Manufacturer: National Semiconductor; CompType: Switcher; PackageTopMarking: NSUZXYTT*LM2576T*-5.0 P+; PowerWise: N; FirstPublished: 4-Dec-2008; DatasheetVersion: Aug-2004; PackageVersion: revJ, Jan-1992; PackageReference: T05A; Publisher: Altium Limited; PackageDescription: TO-220, Molded, 5 Lead, Straight; RoHS: O; PinCount: 5; DigiKeyPartNumber: LM2576T-5.0-ND; Code_JEDEC: TO-220-AB; ComponentLink1Description: LM2576 Datasheet; ComponentLink1URL: http://www.national.com/ds/LM/LM2576.pdf; ComponentLink2Description: LM2576 Web Page; ComponentLink2URL: http://www.national.com/pf/LM/LM2576.html; ComponentLink3Description: T05A Package Page; ComponentLink3URL: http://www.national.com/packaging/folders/t05a.html
footprint TO263-5 (LM2576-SMD)
pins: 1 VIN (power), 2 OUT (power), 3 GND (power), 4 FB (in), 5 ~{ON}/OFF (in), 6 GND

## LM2576T TO220-5_MH
designator U?
SIMPLE SWITCHER; 3A Step-Down Voltage Regulator; PartNumber: LM2576T-5.0; Manufacturer: National Semiconductor; PackageTopMarking: NSUZXYTT*LM2576T*-5.0 P+; PowerWise: N; FirstPublished: 4-Dec-2008; DatasheetVersion: Aug-2004; PackageVersion: revJ, Jan-1992; PackageReference: T05A; Publisher: Altium Limited; PackageDescription: TO-220, Molded, 5 Lead, Straight; CompType: Switcher; RoHS: O; PinCount: 5; DigiKeyPartNumber: LM2576T-5.0-ND; Code_JEDEC: TO-220-AB; ComponentLink1Description: LM2576 Datasheet; ComponentLink1URL: http://www.national.com/ds/LM/LM2576.pdf; ComponentLink2Description: LM2576 Web Page; ComponentLink2URL: http://www.national.com/pf/LM/LM2576.html; ComponentLink3Description: T05A Package Page; ComponentLink3URL: http://www.national.com/packaging/folders/t05a.html
footprint LM2576t
pins: 1 VIN (power), 2 OUT (power), 3 GND (power), 4 FB (in), 5 ~{ON}/OFF (in), 6 GND

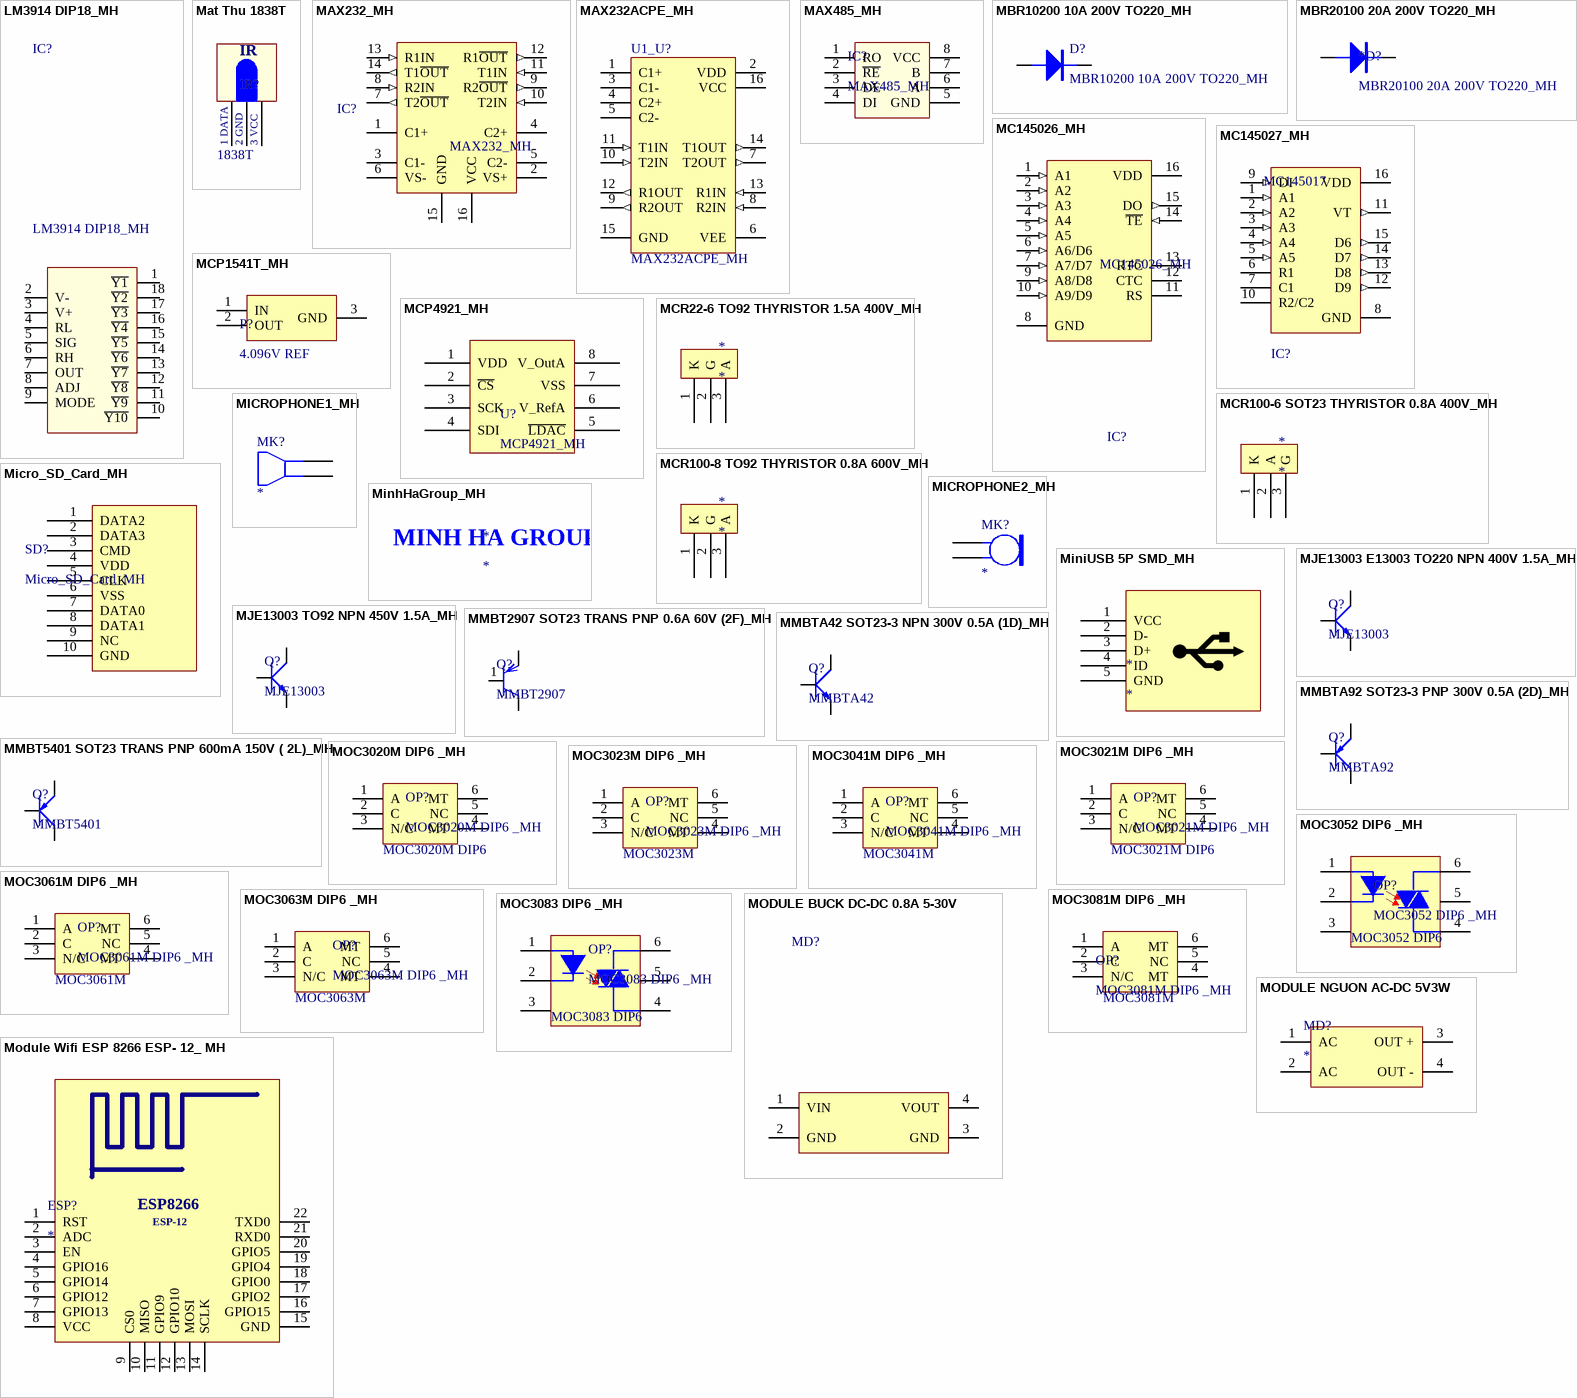
[diagram p21: symbols LM3914 DIP18_MH to Module Wifi ESP 8266 ESP- 12_ MH]

## LM3914 DIP18_MH
designator IC?
Value: LM3914
footprint DIP18 (18 PIN, W 300mil, Pin to pin 100mil)
pins: 1 ~{Y1}, 2 V-, 3 V+, 4 RL, 5 SIG, 6 RH, 7 OUT, 8 ADJ, 9 MODE, 10 ~{Y10}, 11 ~{Y9}, 12 ~{Y8}, 13 ~{Y7}, 14 ~{Y6}, 15 ~{Y5}, 16 ~{Y4}, 17 ~{Y3}, 18 ~{Y2}

## Mat Thu 1838T
designator IR?  (value not drawn)
footprint IR (Receiver Infared IC)
pins: 1 DATA, 2 GND, 3 VCC
text: IR; 1 DATA; 2 GND; 3 VCC; 1838T

## MAX232_MH
designator IC?
Dual EIA-232 Driver/Receiver; Value: MAX232
footprint DIP16 (16 PIN, W 300mil, Pin to pin 100mil)
footprint SO-16 (SOIC, 16-Leads, Body 9.9x3.9mm, Pitch 1.27mm, IPC Medium Density)
pins: 1 C1+, 2 VS+ (power), 3 C1-, 4 C2+, 5 C2-, 6 VS- (power), 7 T2~{OUT} (out), 8 R2IN (in), 9 R2~{OUT} (out), 10 T2IN (in), 11 T1IN (in), 12 R1~{OUT} (out), 13 R1IN (in), 14 T1~{OUT} (out), 15 GND (power), 16 VCC (power)

## MAX232ACPE_MH
designator U1_U?
+5V Powered, Multi-Channel RS-232 Driver/Receiver; Published: 16-Jan-2001; LatestRevisionDate: 06-Jun-2005; LatestRevisionNote: Stylized 3D Model Added.; PackageVersion: 1997; PackageReference: PE16A; Publisher: Altium Limited; PackageDescription: DIP; 16 Leads; Row Spacing 7.62 mm; Pitch 2.54 mm; Code_JEDEC: MS-001-BB; ComponentLink1Description: Manufacturer Link; ComponentLink1URL: http://www.maxim-ic.com/; ComponentLink2Description: Datasheet; ComponentLink2URL: http://pdfserv.maxim-ic.com/en/ds/MAX220-MAX249.pdf
footprint DIP16 (16 PIN, W 300mil, Pin to pin 100mil)
pins: 1 C1+, 2 VDD (power), 3 C1-, 4 C2+, 5 C2-, 6 VEE (power), 7 T2OUT (out), 8 R2IN (in), 9 R2OUT (out), 10 T2IN (in), 11 T1IN (in), 12 R1OUT (out), 13 R1IN (in), 14 T1OUT (out), 15 GND (power), 16 VCC (power)

## MAX485_MH
designator IC?
RS232 - RS485 (Same sn75176)
footprint DIP8 (W.300/L.400)
footprint SO-8 (8-Pin Small Outline Integrated Circuit 1.27 mm Pitch, IPC Medium Density)
pins: 1 RO "Receiver Output", 2 ~{RE} "Receiver Enable Output", 3 DE "Driver Enable Output", 4 DI "Driver Input", 5 GND, 6 A "RI & NoneDO", 7 B "NoneDI", 8 VCC

## MBR10200 10A 200V TO220_MH
designator D?
MBR10200 10A 200V TO220
footprint TO220
pins: 1, 2

## MBR20100 20A 200V TO220_MH
designator *D?
MBR20100 20A 200V TO220
footprint TO220
pins: 1, 2

## MC145026_MH
designator IC?
Encoder Remote; Value: MC145026
footprint DIP16 (16 PIN, W 300mil, Pin to pin 100mil)
pins: 1 A1 (in), 2 A2 (in), 3 A3 (in), 4 A4 (in), 5 A5 (in), 6 A6/D6 (in), 7 A7/D7 (in), 8 GND (power), 9 A8/D8 (in), 10 A9/D9 (in), 11 RS, 12 CTC, 13 RTC, 14 ~{TE} (in), 15 DO (out), 16 VDD (power)

## MC145027_MH
designator IC?, comment MC145017
Decoder Remote; Value: MC145027
footprint DIP16 (16 PIN, W 300mil, Pin to pin 100mil)
pins: 1 A1 (in), 2 A2 (in), 3 A3 (in), 4 A4 (in), 5 A5 (in), 6 R1, 7 C1, 8 GND (power), 9 DI (in), 10 R2/C2, 11 VT (out), 12 D9 (out), 13 D8 (out), 14 D7 (out), 15 D6 (out), 16 VDD (power)

## MCP1541T_MH
designator P?, comment 4.096V REF
footprint SOT233
pins: 1 IN, 2 OUT, 3 GND

## MCP4921_MH
designator U?
footprint SOP 8
pins: 1 VDD, 2 ~{CS}, 3 SCK, 4 SDI, 5 ~{LDAC}, 6 V_RefA, 7 VSS, 8 V_OutA

## MCR22-6 TO92 THYRISTOR 1.5A 400V_MH
designator *
footprint TO92 (TO, Flat Index; 3 In-Line, Axial Leads; Body Dia. 4.8mm)
pins: 1 K, 2 G, 3 A

## MCR100-6 SOT23 THYRISTOR 0.8A 400V_MH
designator *
footprint SOT23_THY (SOT-23; 3 Leads; Body 3.1 x 2.5 mm, inc. leads (LxW max), Alternate Lead Configuration)
pins: 1 K, 2 A, 3 G

## MCR100-8 TO92 THYRISTOR 0.8A 600V_MH
designator *
footprint TO92 (TO, Flat Index; 3 In-Line, Axial Leads; Body Dia. 4.8mm)
pins: 1 K, 2 G, 3 A

## Micro_SD_Card_MH
designator SD?
footprint MicroSD_TF_V1
footprint MicroSD_TF_V1
pins: 1 DATA2, 2 DATA3, 3 CMD, 4 VDD, 5 CLK, 6 VSS, 7 DATA0, 8 DATA1, 9 NC, 10 GND

## MICROPHONE1_MH
designator MK?
Microphone
footprint HEADER 2
pins: 1, 2

## MICROPHONE2_MH
designator MK?
Microphone
footprint HEADER 2
pins: 1, 2

## MinhHaGroup_MH
designator *
footprint LOGO
text: MINH HA GROUP

## MiniUSB 5P SMD_MH
designator *
footprint USB-B-Mini
pins: 1 VCC, 2 D-, 3 D+, 4 ID, 5 GND

## MJE13003 E13003 TO220 NPN 400V 1.5A_MH
designator Q?, comment MJE13003
footprint TO220
pins: 1 B, 2 C, 3 E

## MJE13003 TO92 NPN 450V 1.5A_MH
designator Q?, comment MJE13003
footprint TO92 (TO, Flat Index; 3 In-Line, Axial Leads; Body Dia. 4.8mm)
pins: 1 E, 2 C, 3 B

## MMBT2907 SOT23 TRANS PNP 0.6A 60V (2F)_MH
designator Q?, comment MMBT2907
footprint CDS (QUANG TRO)
pins: 1 B, 2 E, 3 C

## MMBT5401 SOT23 TRANS PNP 600mA 150V ( 2L)_MH
designator Q?, comment MMBT5401
footprint SOT23 (SOT-23; 3 Leads; Body 3.1 x 2.5 mm, inc. leads (LxW max), Alternate Lead Configuration)
pins: 1 B, 2 E, 3 C

## MMBTA42 SOT23-3 NPN 300V 0.5A (1D)_MH
designator Q?, comment MMBTA42
footprint SOT23 (SOT-23; 3 Leads; Body 3.1 x 2.5 mm, inc. leads (LxW max), Alternate Lead Configuration)
pins: 1 B, 2 E, 3 C

## MMBTA92 SOT23-3 PNP 300V 0.5A (2D)_MH
designator Q?, comment MMBTA92
footprint SOT23 (SOT-23; 3 Leads; Body 3.1 x 2.5 mm, inc. leads (LxW max), Alternate Lead Configuration)
pins: 1 B, 2 E, 3 C

## MOC3020M DIP6 _MH
designator OP?
footprint DIP6 (6 PIN, W 300mil, Pin to pin 100mil)
pins: 1 A, 2 C, 3 N/C, 4 MT, 5 NC, 6 MT
text: MOC3020M DIP6

## MOC3021M DIP6 _MH
designator OP?
footprint DIP6 (6 PIN, W 300mil, Pin to pin 100mil)
pins: 1 A, 2 C, 3 N/C, 4 MT, 5 NC, 6 MT
text: MOC3021M DIP6

## MOC3023M DIP6 _MH
designator OP?
footprint DIP6 (6 PIN, W 300mil, Pin to pin 100mil)
pins: 1 A, 2 C, 3 N/C, 4 MT, 5 NC, 6 MT
text: MOC3023M

## MOC3041M DIP6 _MH
designator OP?
footprint DIP6 (6 PIN, W 300mil, Pin to pin 100mil)
pins: 1 A, 2 C, 3 N/C, 4 MT, 5 NC, 6 MT
text: MOC3041M

## MOC3052 DIP6 _MH
designator OP?
footprint DIP6 (6 PIN, W 300mil, Pin to pin 100mil)
pins: 1 "Anot", 2 "Katot", 3, 4, 5, 6
text: MOC3052 DIP6

## MOC3061M DIP6 _MH
designator OP?
footprint DIP6 (6 PIN, W 300mil, Pin to pin 100mil)
pins: 1 A, 2 C, 3 N/C, 4 MT, 5 NC, 6 MT
text: MOC3061M

## MOC3063M DIP6 _MH
designator OP?
footprint DIP6 (6 PIN, W 300mil, Pin to pin 100mil)
pins: 1 A, 2 C, 3 N/C, 4 MT, 5 NC, 6 MT
text: MOC3063M

## MOC3081M DIP6 _MH
designator OP?
footprint DIP6 (6 PIN, W 300mil, Pin to pin 100mil)
pins: 1 A, 2 C, 3 N/C, 4 MT, 5 NC, 6 MT
text: MOC3081M

## MOC3083 DIP6 _MH
designator OP?
footprint DIP6 (6 PIN, W 300mil, Pin to pin 100mil)
pins: 1 "Anot", 2 "Katot", 3, 4, 5, 6
text: MOC3083 DIP6

## MODULE BUCK DC-DC 0.8A 5-30V
designator MD?  (value not drawn)
footprint MODULE DC-DC 0.8A 5-80V
pins: 1 VIN, 2 GND, 3 GND, 4 VOUT

## MODULE NGUON AC-DC 5V3W
designator MD?
footprint MODULE NGUON AC-DC 5V3W
pins: 1 AC, 2 AC, 3 OUT +, 4 OUT -

## Module Wifi ESP 8266 ESP- 12_ MH
designator ESP?
footprint MODULE WIFI ESP8266 ESP-12
pins: 1 RST, 2 ADC, 3 EN, 4 GPIO16, 5 GPIO14, 6 GPIO12, 7 GPIO13, 8 VCC, 9 CS0, 10 MISO, 11 GPIO9, 12 GPIO10, 13 MOSI, 14 SCLK, 15 GND, 16 GPIO15, 17 GPIO2, 18 GPIO0, 19 GPIO4, 20 GPIO5, 21 RXD0, 22 TXD0
text: ESP8266; ESP-12

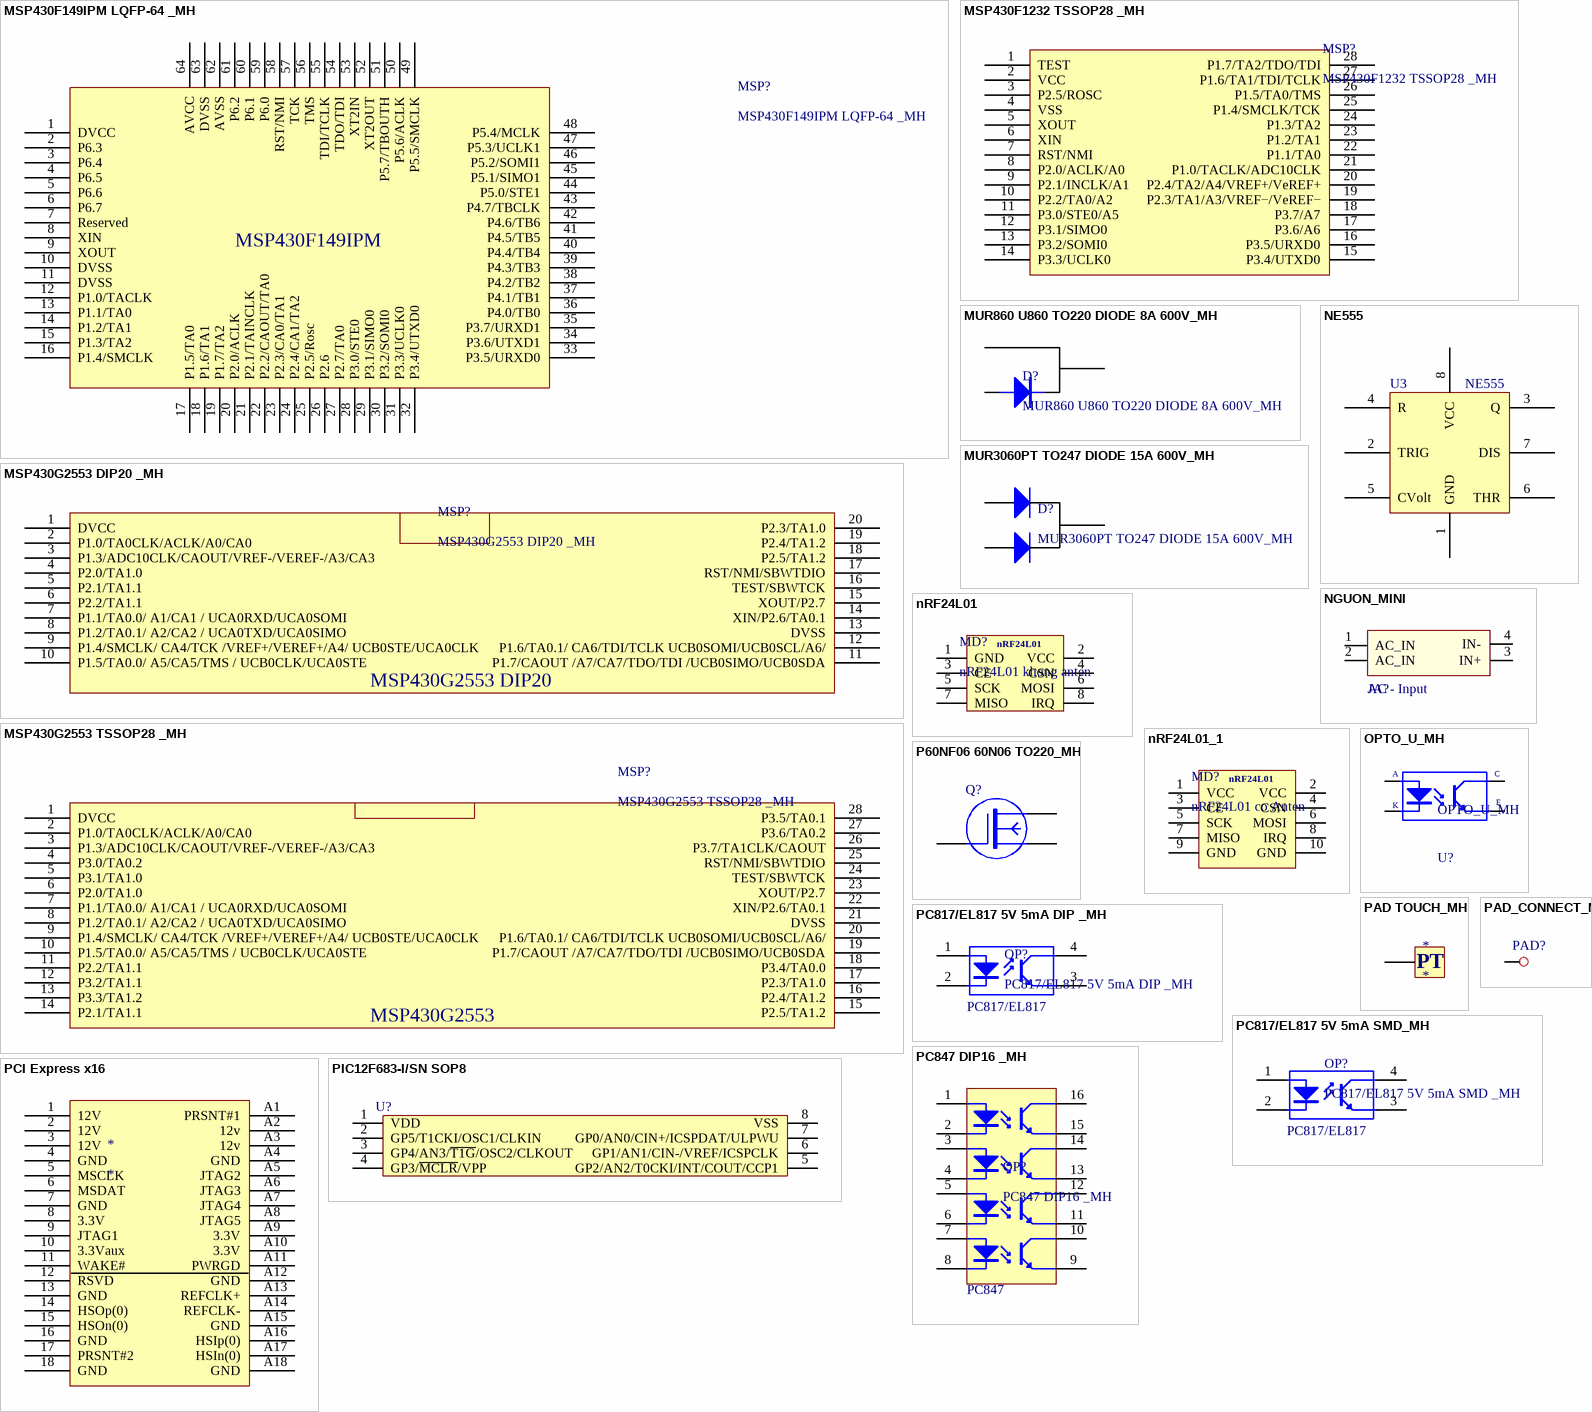
[diagram p22: symbols MSP430F149IPM LQFP-64 _MH to PIC12F683-I/SN SOP8]

## MSP430F149IPM LQFP-64 _MH
designator MSP?
footprint LQFP 64
pins: 1 DVCC, 2 P6.3, 3 P6.4, 4 P6.5, 5 P6.6, 6 P6.7, 7 Reserved, 8 XIN, 9 XOUT, 10 DVSS, 11 DVSS, 12 P1.0/TACLK, 13 P1.1/TA0, 14 P1.2/TA1, 15 P1.3/TA2, 16 P1.4/SMCLK, 17 P1.5/TA0, 18 P1.6/TA1, 19 P1.7/TA2, 20 P2.0/ACLK, 21 P2.1/TAINCLK, 22 P2.2/CAOUT/TA0, 23 P2.3/CA0/TA1, 24 P2.4/CA1/TA2, 25 P2.5/Rosc, 26 P2.6, 27 P2.7/TA0, 28 P3.0/STE0, 29 P3.1/SIMO0, 30 P3.2/SOMI0, 31 P3.3/UCLK0, 32 P3.4/UTXD0, 33 P3.5/URXD0, 34 P3.6/UTXD1, 35 P3.7/URXD1, 36 P4.0/TB0, 37 P4.1/TB1, 38 P4.2/TB2, 39 P4.3/TB3, 40 P4.4/TB4, 41 P4.5/TB5, 42 P4.6/TB6, 43 P4.7/TBCLK, 44 P5.0/STE1, 45 P5.1/SIMO1, 46 P5.2/SOMI1, 47 P5.3/UCLK1, 48 P5.4/MCLK, 49 P5.5/SMCLK, 50 P5.6/ACLK, 51 P5.7/TBOUTH, 52 XT2OUT, 53 XT2IN, 54 TDO/TDI, 55 TDI/TCLK, 56 TMS, 57 TCK, 58 RST/NMI, 59 P6.0, 60 P6.1, 61 P6.2, 62 AVSS, 63 DVSS, 64 AVCC
text: MSP430F149IPM

## MSP430F1232 TSSOP28 _MH
designator MSP?
footprint TSSOP28
pins: 1 TEST, 2 VCC, 3 P2.5/ROSC, 4 VSS, 5 XOUT, 6 XIN, 7 RST/NMI, 8 P2.0/ACLK/A0, 9 P2.1/INCLK/A1, 10 P2.2/TA0/A2, 11 P3.0/STE0/A5, 12 P3.1/SIMO0, 13 P3.2/SOMI0, 14 P3.3/UCLK0, 15 P3.4/UTXD0, 16 P3.5/URXD0, 17 P3.6/A6, 18 P3.7/A7, 19 P2.3/TA1/A3/VREF−/VeREF−, 20 P2.4/TA2/A4/VREF+/VeREF+, 21 P1.0/TACLK/ADC10CLK, 22 P1.1/TA0, 23 P1.2/TA1, 24 P1.3/TA2, 25 P1.4/SMCLK/TCK, 26 P1.5/TA0/TMS, 27 P1.6/TA1/TDI/TCLK, 28 P1.7/TA2/TDO/TDI

## MSP430G2553 DIP20 _MH
designator MSP?
footprint DIP20 (DIP 20, 20 PIN, W 300mil, Pin to pin 100mil)
pins: 1 DVCC, 2 P1.0/TA0CLK/ACLK/A0/CA0, 3 P1.3/ADC10CLK/CAOUT/VREF-/VEREF-/A3/CA3, 4 P2.0/TA1.0, 5 P2.1/TA1.1, 6 P2.2/TA1.1, 7 P1.1/TA0.0/ A1/CA1 / UCA0RXD/UCA0SOMI, 8 P1.2/TA0.1/ A2/CA2 / UCA0TXD/UCA0SIMO, 9 P1.4/SMCLK/ CA4/TCK /VREF+/VEREF+/A4/ UCB0STE/UCA0CLK, 10 P1.5/TA0.0/ A5/CA5/TMS / UCB0CLK/UCA0STE, 11 P1.7/CAOUT /A7/CA7/TDO/TDI /UCB0SIMO/UCB0SDA, 12 P1.6/TA0.1/ CA6/TDI/TCLK UCB0SOMI/UCB0SCL/A6/, 13 DVSS, 14 XIN/P2.6/TA0.1, 15 XOUT/P2.7, 16 TEST/SBWTCK, 17 RST/NMI/SBWTDIO, 18 P2.5/TA1.2, 19 P2.4/TA1.2, 20 P2.3/TA1.0
text: MSP430G2553 DIP20

## MSP430G2553 TSSOP28 _MH
designator MSP?
footprint TSSOP28
pins: 1 DVCC, 2 P1.0/TA0CLK/ACLK/A0/CA0, 3 P1.3/ADC10CLK/CAOUT/VREF-/VEREF-/A3/CA3, 4 P3.0/TA0.2, 5 P3.1/TA1.0, 6 P2.0/TA1.0, 7 P1.1/TA0.0/ A1/CA1 / UCA0RXD/UCA0SOMI, 8 P1.2/TA0.1/ A2/CA2 / UCA0TXD/UCA0SIMO, 9 P1.4/SMCLK/ CA4/TCK /VREF+/VEREF+/A4/ UCB0STE/UCA0CLK, 10 P1.5/TA0.0/ A5/CA5/TMS / UCB0CLK/UCA0STE, 11 P2.2/TA1.1, 12 P3.2/TA1.1, 13 P3.3/TA1.2, 14 P2.1/TA1.1, 15 P2.5/TA1.2, 16 P2.4/TA1.2, 17 P2.3/TA1.0, 18 P3.4/TA0.0, 19 P1.7/CAOUT /A7/CA7/TDO/TDI /UCB0SIMO/UCB0SDA, 20 P1.6/TA0.1/ CA6/TDI/TCLK UCB0SOMI/UCB0SCL/A6/, 21 DVSS, 22 XIN/P2.6/TA0.1, 23 XOUT/P2.7, 24 TEST/SBWTCK, 25 RST/NMI/SBWTDIO, 26 P3.7/TA1CLK/CAOUT, 27 P3.6/TA0.2, 28 P3.5/TA0.1
text: MSP430G2553

## MUR860 U860 TO220 DIODE 8A 600V_MH
designator D?
MUR860 U860 TO220 DIODE 8A 600V
footprint TO-247
footprint TO-220 D
pins: 1, 3, 4

## MUR3060PT TO247 DIODE 15A 600V_MH
designator D?
MUR3060PT TO247 DIODE 15A 600V
footprint Diode TO220
pins: 1 A, 2 K, 3 A

## NE555
designator U3
footprint DIP8
footprint SOP 8
pins: 1 GND, 2 TRIG, 3 Q, 4 R, 5 CVolt, 6 THR, 7 DIS, 8 VCC

## NGUON_MINI
designator JA?, comment AC - Input
Value: AC - Input
footprint Nguon Mini
pins: 1 AC_IN, 2 AC_IN, 3 IN+, 4 IN-

## nRF24L01
designator MD?, comment nRF24L01 khong anten
MODULE nRF24L01 2.4 GHZ
footprint NRF24L01
pins: 1 GND, 2 VCC, 3 CE, 4 CSN, 5 SCK, 6 MOSI, 7 MISO, 8 IRQ

## nRF24L01_1
designator MD?, comment nRF24L01 co Anten
MODULE nRF24L01 2.4 GHZ
footprint NRF24L01
pins: 1 VCC, 2 VCC, 3 CE, 4 CSN, 5 SCK, 6 MOSI, 7 MISO, 8 IRQ, 9 GND, 10 GND
text: nRF24L01

## OPTO_U_MH
designator U?
Single Opto; Value: TLP5211
footprint OPTO_U (Opto hinh chu U)
pins: A "Anode", C "Collector", E "Emitter", K "Cathode"

## P60NF06 60N06 TO220_MH
designator Q?
footprint G_D_S_TO220
pins: 1 G "1", 2 D, 3 S

## PAD TOUCH_MH
designator *
footprint PAD TOUCH
pins: 1
text: PT

## PAD_CONNECT_MH
designator PAD?, comment PAD CONNECT  (value not drawn)
footprint PAD_CONNECT
pins: 1

## PC817/EL817 5V 5mA DIP _MH
designator OP?
footprint DIP4 (W.300/L.400)
pins: 1, 2, 3, 4
text: PC817/EL817

## PC817/EL817 5V 5mA SMD_MH
designator OP?, comment PC817/EL817 5V 5mA SMD _MH
PC817/EL817 5V 5mA SMD_MH
footprint OP SOP4
pins: 1, 2, 3, 4
text: PC817/EL817

## PC847 DIP16 _MH
designator OP?
footprint DIP16 (16 PIN, W 300mil, Pin to pin 100mil)
pins: 1, 2, 3, 4, 5, 6, 7, 8, 9, 10, 11, 12, 13, 14, 15, 16
text: PC847

## PCI Express x16
designator *
pins: 1 12V, 2 12V, 3 12V, 4 GND, 5 MSCLK, 6 MSDAT, 7 GND, 8 3.3V, 9 JTAG1, 10 3.3Vaux, 11 WAKE#, 12 RSVD, 13 GND, 14 HSOp(0), 15 HSOn(0), 16 GND, 17 PRSNT#2, 18 GND, A1 PRSNT#1, A2 12v, A3 12v, A4 GND, A5 JTAG2, A6 JTAG3, A7 JTAG4, A8 JTAG5, A9 3.3V, A10 3.3V, A11 PWRGD, A12 GND, A13 REFCLK+, A14 REFCLK-, A15 GND, A16 HSIp(0), A17 HSIn(0), A18 GND

## PIC12F683-I/SN SOP8
designator U?  (value not drawn)
footprint SOP 8
pins: 1 VDD, 2 GP5/T1CKI/OSC1/CLKIN, 3 GP4/AN3/~{T1G}/OSC2/CLKOUT, 4 GP3/~{MCLR}/VPP, 5 GP2/AN2/T0CKI/INT/COUT/CCP1, 6 GP1/AN1/CIN-/VREF/ICSPCLK, 7 GP0/AN0/CIN+/ICSPDAT/ULPWU, 8 VSS

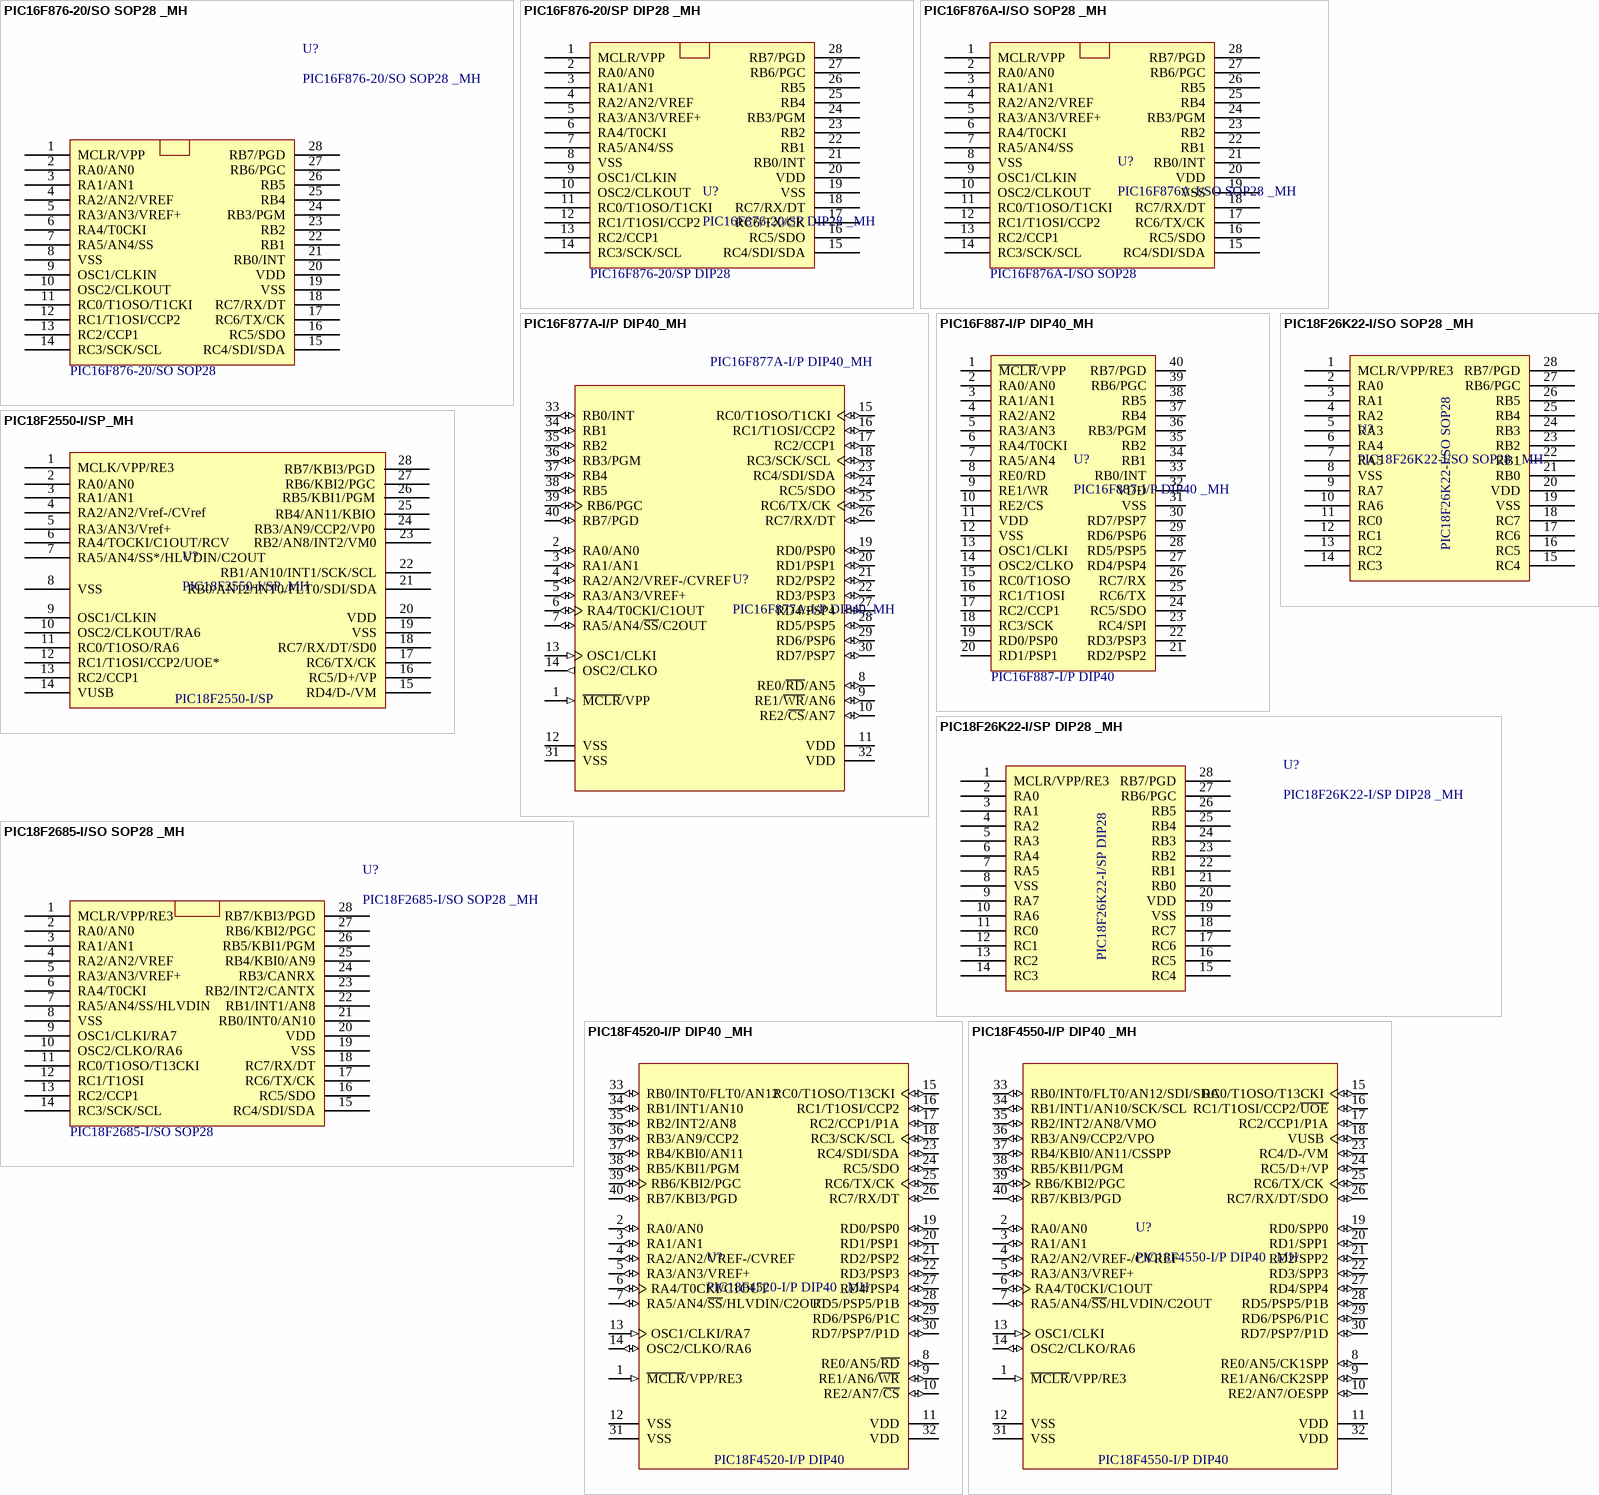
[diagram p23: symbols PIC16F876-20/SO SOP28 _MH to PIC18F4550-I/P DIP40 _MH]

## PIC16F876-20/SO SOP28 _MH
designator U?
footprint SOP_28M_127 (SOP, 28-Leads, Body 18.1x8.6mm, Pitch 1.27mm, IPC Low Density)
pins: 1 MCLR/VPP, 2 RA0/AN0, 3 RA1/AN1, 4 RA2/AN2/VREF, 5 RA3/AN3/VREF+, 6 RA4/T0CKI, 7 RA5/AN4/SS, 8 VSS, 9 OSC1/CLKIN, 10 OSC2/CLKOUT, 11 RC0/T1OSO/T1CKI, 12 RC1/T1OSI/CCP2, 13 RC2/CCP1, 14 RC3/SCK/SCL, 15 RC4/SDI/SDA, 16 RC5/SDO, 17 RC6/TX/CK, 18 RC7/RX/DT, 19 VSS, 20 VDD, 21 RB0/INT, 22 RB1, 23 RB2, 24 RB3/PGM, 25 RB4, 26 RB5, 27 RB6/PGC, 28 RB7/PGD
text: PIC16F876-20/SO SOP28

## PIC16F876-20/SP DIP28 _MH
designator U?
footprint DIP28 (28 PIN, W 300mil, Pin to pin 100mil)
pins: 1 MCLR/VPP, 2 RA0/AN0, 3 RA1/AN1, 4 RA2/AN2/VREF, 5 RA3/AN3/VREF+, 6 RA4/T0CKI, 7 RA5/AN4/SS, 8 VSS, 9 OSC1/CLKIN, 10 OSC2/CLKOUT, 11 RC0/T1OSO/T1CKI, 12 RC1/T1OSI/CCP2, 13 RC2/CCP1, 14 RC3/SCK/SCL, 15 RC4/SDI/SDA, 16 RC5/SDO, 17 RC6/TX/CK, 18 RC7/RX/DT, 19 VSS, 20 VDD, 21 RB0/INT, 22 RB1, 23 RB2, 24 RB3/PGM, 25 RB4, 26 RB5, 27 RB6/PGC, 28 RB7/PGD
text: PIC16F876-20/SP DIP28

## PIC16F876A-I/SO SOP28 _MH
designator U?
footprint SOP_28M_127 (SOP, 28-Leads, Body 18.1x8.6mm, Pitch 1.27mm, IPC Low Density)
pins: 1 MCLR/VPP, 2 RA0/AN0, 3 RA1/AN1, 4 RA2/AN2/VREF, 5 RA3/AN3/VREF+, 6 RA4/T0CKI, 7 RA5/AN4/SS, 8 VSS, 9 OSC1/CLKIN, 10 OSC2/CLKOUT, 11 RC0/T1OSO/T1CKI, 12 RC1/T1OSI/CCP2, 13 RC2/CCP1, 14 RC3/SCK/SCL, 15 RC4/SDI/SDA, 16 RC5/SDO, 17 RC6/TX/CK, 18 RC7/RX/DT, 19 VSS, 20 VDD, 21 RB0/INT, 22 RB1, 23 RB2, 24 RB3/PGM, 25 RB4, 26 RB5, 27 RB6/PGC, 28 RB7/PGD
text: PIC16F876A-I/SO SOP28

## PIC16F877A-I/P DIP40_MH
designator U?
footprint DIP 40
pins: 1 ~{MCLR}/VPP (in), 2 RA0/AN0 (io), 3 RA1/AN1 (io), 4 RA2/AN2/VREF-/CVREF (io), 5 RA3/AN3/VREF+ (io), 6 RA4/T0CKI/C1OUT (io), 7 RA5/AN4/~{SS}/C2OUT (io), 8 RE0/~{RD}/AN5 (io), 9 RE1/~{WR}/AN6 (io), 10 RE2/~{CS}/AN7 (io), 11 VDD (power), 12 VSS (power), 13 OSC1/CLKI (in), 14 OSC2/CLKO (out), 15 RC0/T1OSO/T1CKI (io), 16 RC1/T1OSI/CCP2 (io), 17 RC2/CCP1 (io), 18 RC3/SCK/SCL (io), 19 RD0/PSP0 (io), 20 RD1/PSP1 (io), 21 RD2/PSP2 (io), 22 RD3/PSP3 (io), 23 RC4/SDI/SDA (io), 24 RC5/SDO (io), 25 RC6/TX/CK (io), 26 RC7/RX/DT (io), 27 RD4/PSP4 (io), 28 RD5/PSP5 (io), 29 RD6/PSP6 (io), 30 RD7/PSP7 (io), 31 VSS (power), 32 VDD (power), 33 RB0/INT (io), 34 RB1 (io), 35 RB2 (io), 36 RB3/PGM (io), 37 RB4 (io), 38 RB5 (io), 39 RB6/PGC (io), 40 RB7/PGD (io)

## PIC16F887-I/P DIP40_MH
designator U?, comment PIC16F887-I/P DIP40 _MH
PIC16F887-I/P DIP40_MH
footprint DIP 40
pins: 1 ~{MCLR}/VPP, 2 RA0/AN0, 3 RA1/AN1, 4 RA2/AN2, 5 RA3/AN3, 6 RA4/T0CKI, 7 RA5/AN4, 8 RE0/RD, 9 RE1/WR, 10 RE2/CS, 11 VDD, 12 VSS, 13 OSC1/CLKI, 14 OSC2/CLKO, 15 RC0/T1OSO, 16 RC1/T1OSI, 17 RC2/CCP1, 18 RC3/SCK, 19 RD0/PSP0, 20 RD1/PSP1, 21 RD2/PSP2, 22 RD3/PSP3, 23 RC4/SPI, 24 RC5/SDO, 25 RC6/TX, 26 RC7/RX, 27 RD4/PSP4, 28 RD5/PSP5, 29 RD6/PSP6, 30 RD7/PSP7, 31 VSS, 32 VDD, 33 RB0/INT, 34 RB1, 35 RB2, 36 RB3/PGM, 37 RB4, 38 RB5, 39 RB6/PGC, 40 RB7/PGD
text: PIC16F887-I/P DIP40

## PIC18F26K22-I/SO SOP28 _MH
designator U?
footprint SOP_28M_127 (SOP, 28-Leads, Body 18.1x8.6mm, Pitch 1.27mm, IPC Low Density)
pins: 1 MCLR/VPP/RE3, 2 RA0, 3 RA1, 4 RA2, 5 RA3, 6 RA4, 7 RA5, 8 VSS, 9 RA7, 10 RA6, 11 RC0, 12 RC1, 13 RC2, 14 RC3, 15 RC4, 16 RC5, 17 RC6, 18 RC7, 19 VSS, 20 VDD, 21 RB0, 22 RB1, 23 RB2, 24 RB3, 25 RB4, 26 RB5, 27 RB6/PGC, 28 RB7/PGD
text: PIC18F26K22-I/SO SOP28

## PIC18F26K22-I/SP DIP28 _MH
designator U?
footprint DIP28 (28 PIN, W 300mil, Pin to pin 100mil)
pins: 1 MCLR/VPP/RE3, 2 RA0, 3 RA1, 4 RA2, 5 RA3, 6 RA4, 7 RA5, 8 VSS, 9 RA7, 10 RA6, 11 RC0, 12 RC1, 13 RC2, 14 RC3, 15 RC4, 16 RC5, 17 RC6, 18 RC7, 19 VSS, 20 VDD, 21 RB0, 22 RB1, 23 RB2, 24 RB3, 25 RB4, 26 RB5, 27 RB6/PGC, 28 RB7/PGD
text: PIC18F26K22-I/SP DIP28

## PIC18F2550-I/SP_MH
designator U?
footprint DIP28 (28 PIN, W 300mil, Pin to pin 100mil)
pins: 1 MCLK/VPP/RE3, 2 RA0/AN0, 3 RA1/AN1, 4 RA2/AN2/Vref-/CVref, 5 RA3/AN3/Vref+, 6 RA4/TOCKI/C1OUT/RCV, 7 RA5/AN4/SS*/HLVDIN/C2OUT, 8 VSS, 9 OSC1/CLKIN, 10 OSC2/CLKOUT/RA6, 11 RC0/T1OSO/RA6, 12 RC1/T1OSI/CCP2/UOE*, 13 RC2/CCP1, 14 VUSB, 15 RD4/D-/VM, 16 RC5/D+/VP, 17 RC6/TX/CK, 18 RC7/RX/DT/SD0, 19 VSS, 20 VDD, 21 RB0/AN12/INT0/FLT0/SDI/SDA, 22 RB1/AN10/INT1/SCK/SCL, 23 RB2/AN8/INT2/VM0, 24 RB3/AN9/CCP2/VP0, 25 RB4/AN11/KBIO, 26 RB5/KBI1/PGM, 27 RB6/KBI2/PGC, 28 RB7/KBI3/PGD
text: PIC18F2550-I/SP

## PIC18F2685-I/SO SOP28 _MH
designator U?
footprint SOP_28M_127 (SOP, 28-Leads, Body 18.1x8.6mm, Pitch 1.27mm, IPC Low Density)
pins: 1 MCLR/VPP/RE3, 2 RA0/AN0, 3 RA1/AN1, 4 RA2/AN2/VREF, 5 RA3/AN3/VREF+, 6 RA4/T0CKI, 7 RA5/AN4/SS/HLVDIN, 8 VSS, 9 OSC1/CLKI/RA7, 10 OSC2/CLKO/RA6, 11 RC0/T1OSO/T13CKI, 12 RC1/T1OSI, 13 RC2/CCP1, 14 RC3/SCK/SCL, 15 RC4/SDI/SDA, 16 RC5/SDO, 17 RC6/TX/CK, 18 RC7/RX/DT, 19 VSS, 20 VDD, 21 RB0/INT0/AN10, 22 RB1/INT1/AN8, 23 RB2/INT2/CANTX, 24 RB3/CANRX, 25 RB4/KBI0/AN9, 26 RB5/KBI1/PGM, 27 RB6/KBI2/PGC, 28 RB7/KBI3/PGD
text: PIC18F2685-I/SO SOP28

## PIC18F4520-I/P DIP40 _MH
designator U?
footprint DIP 40
pins: 1 ~{MCLR}/VPP/RE3 (in), 2 RA0/AN0 (io), 3 RA1/AN1 (io), 4 RA2/AN2/VREF-/CVREF (io), 5 RA3/AN3/VREF+ (io), 6 RA4/T0CKI/C1OUT (io), 7 RA5/AN4/~{SS}/HLVDIN/C2OUT (io), 8 RE0/AN5/~{RD} (io), 9 RE1/AN6/~{WR} (io), 10 RE2/AN7/~{CS} (io), 11 VDD (power), 12 VSS (power), 13 OSC1/CLKI/RA7 (in), 14 OSC2/CLKO/RA6 (io), 15 RC0/T1OSO/T13CKI (io), 16 RC1/T1OSI/CCP2 (io), 17 RC2/CCP1/P1A (io), 18 RC3/SCK/SCL (io), 19 RD0/PSP0 (io), 20 RD1/PSP1 (io), 21 RD2/PSP2 (io), 22 RD3/PSP3 (io), 23 RC4/SDI/SDA (io), 24 RC5/SDO (io), 25 RC6/TX/CK (io), 26 RC7/RX/DT (io), 27 RD4/PSP4 (io), 28 RD5/PSP5/P1B (io), 29 RD6/PSP6/P1C (io), 30 RD7/PSP7/P1D (io), 31 VSS (power), 32 VDD (power), 33 RB0/INT0/FLT0/AN12 (io), 34 RB1/INT1/AN10 (io), 35 RB2/INT2/AN8 (io), 36 RB3/AN9/CCP2 (io), 37 RB4/KBI0/AN11 (io), 38 RB5/KBI1/PGM (io), 39 RB6/KBI2/PGC (io), 40 RB7/KBI3/PGD (io)
text: PIC18F4520-I/P DIP40

## PIC18F4550-I/P DIP40 _MH
designator U?
footprint DIP 40
pins: 1 ~{MCLR}/VPP/RE3 (in), 2 RA0/AN0 (io), 3 RA1/AN1 (io), 4 RA2/AN2/VREF-/CVREF (io), 5 RA3/AN3/VREF+ (io), 6 RA4/T0CKI/C1OUT (io), 7 RA5/AN4/~{SS}/HLVDIN/C2OUT (io), 8 RE0/AN5/CK1SPP (io), 9 RE1/AN6/CK2SPP (io), 10 RE2/AN7/OESPP (io), 11 VDD (power), 12 VSS (power), 13 OSC1/CLKI (in), 14 OSC2/CLKO/RA6 (io), 15 RC0/T1OSO/T13CKI (io), 16 RC1/T1OSI/CCP2/~{UOE} (io), 17 RC2/CCP1/P1A (io), 18 VUSB (io), 19 RD0/SPP0 (io), 20 RD1/SPP1 (io), 21 RD2/SPP2 (io), 22 RD3/SPP3 (io), 23 RC4/D-/VM (io), 24 RC5/D+/VP (io), 25 RC6/TX/CK (io), 26 RC7/RX/DT/SDO (io), 27 RD4/SPP4 (io), 28 RD5/PSP5/P1B (io), 29 RD6/PSP6/P1C (io), 30 RD7/PSP7/P1D (io), 31 VSS (power), 32 VDD (power), 33 RB0/INT0/FLT0/AN12/SDI/SDA (io), 34 RB1/INT1/AN10/SCK/SCL (io), 35 RB2/INT2/AN8/VMO (io), 36 RB3/AN9/CCP2/VPO (io), 37 RB4/KBI0/AN11/CSSPP (io), 38 RB5/KBI1/PGM (io), 39 RB6/KBI2/PGC (io), 40 RB7/KBI3/PGD (io)
text: PIC18F4550-I/P DIP40

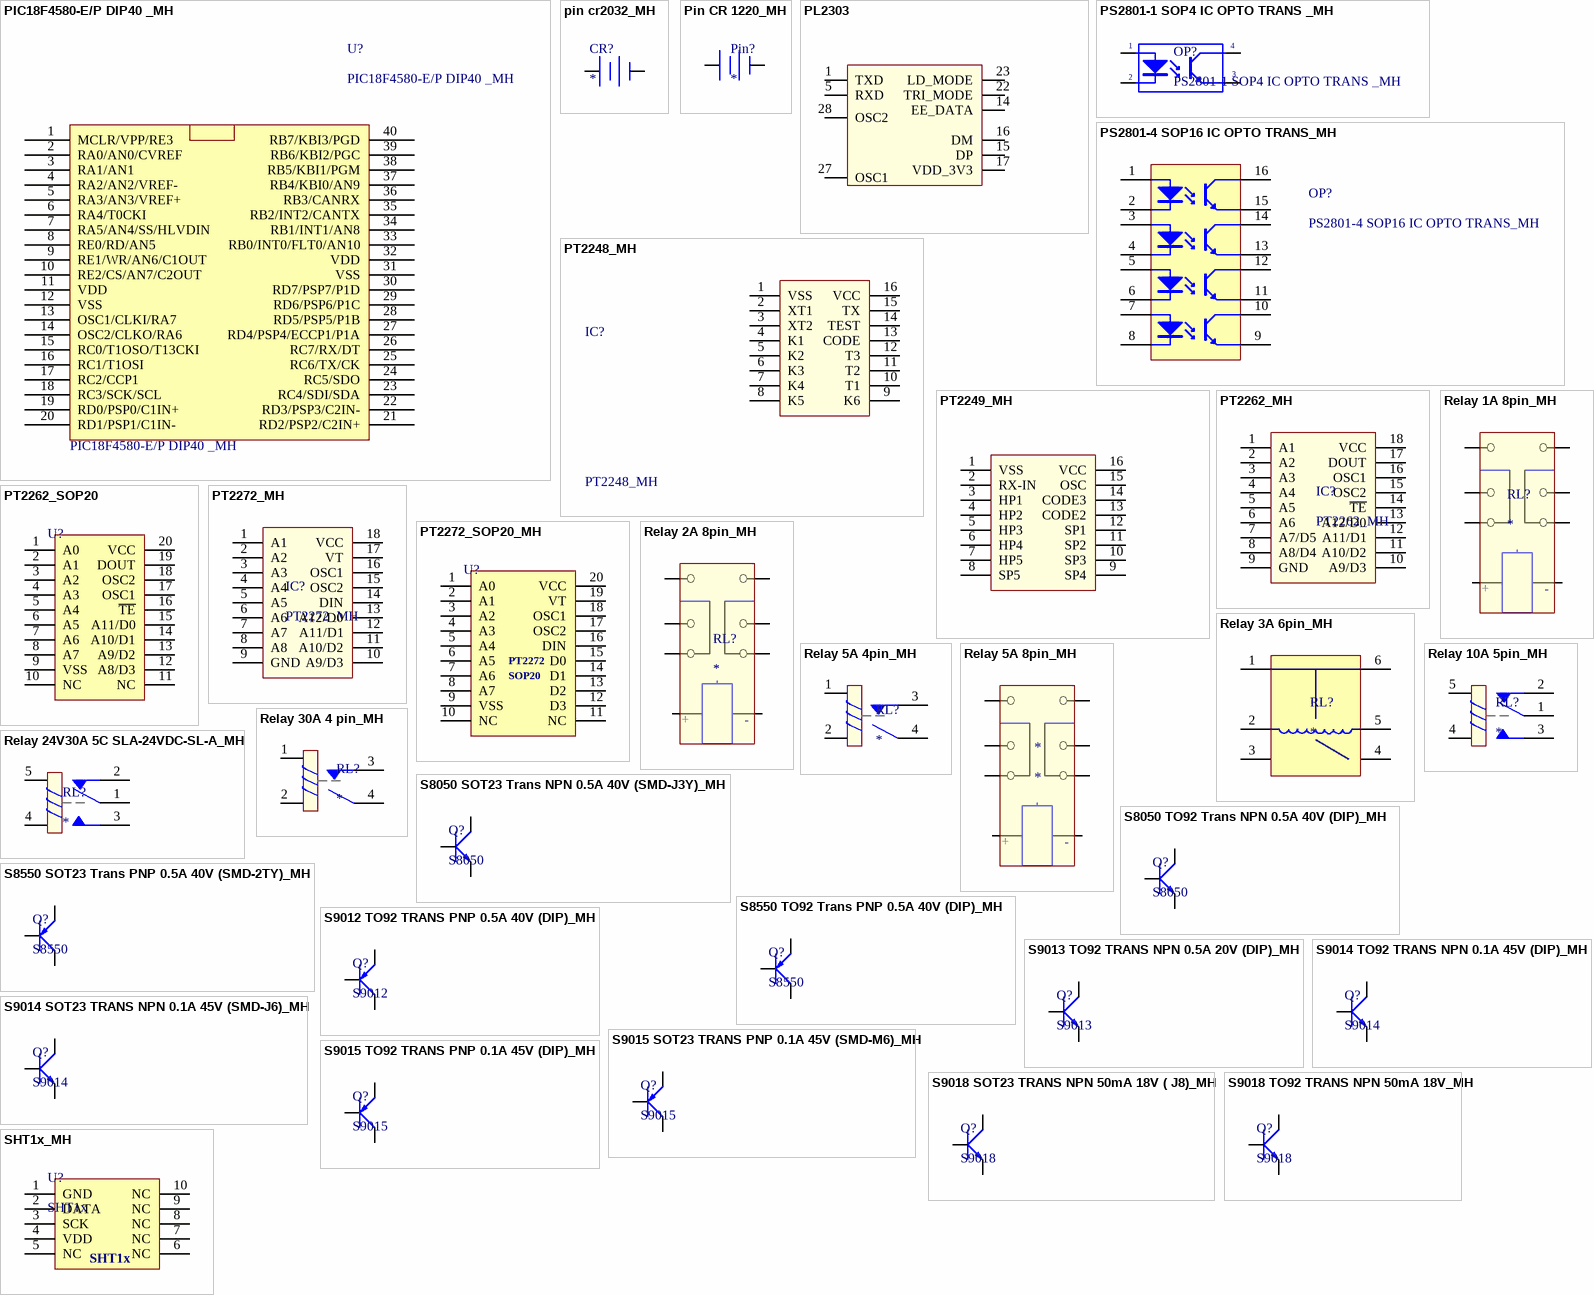
[diagram p24: symbols PIC18F4580-E/P DIP40 _MH to SHT1x_MH]

## PIC18F4580-E/P DIP40 _MH
designator U?
footprint DIP 40
pins: 1 MCLR/VPP/RE3, 2 RA0/AN0/CVREF, 3 RA1/AN1, 4 RA2/AN2/VREF-, 5 RA3/AN3/VREF+, 6 RA4/T0CKI, 7 RA5/AN4/SS/HLVDIN, 8 RE0/RD/AN5, 9 RE1/WR/AN6/C1OUT, 10 RE2/CS/AN7/C2OUT, 11 VDD, 12 VSS, 13 OSC1/CLKI/RA7, 14 OSC2/CLKO/RA6, 15 RC0/T1OSO/T13CKI, 16 RC1/T1OSI, 17 RC2/CCP1, 18 RC3/SCK/SCL, 19 RD0/PSP0/C1IN+, 20 RD1/PSP1/C1IN-, 21 RD2/PSP2/C2IN+, 22 RD3/PSP3/C2IN-, 23 RC4/SDI/SDA, 24 RC5/SDO, 25 RC6/TX/CK, 26 RC7/RX/DT, 27 RD4/PSP4/ECCP1/P1A, 28 RD5/PSP5/P1B, 29 RD6/PSP6/P1C, 30 RD7/PSP7/P1D, 31 VSS, 32 VDD, 33 RB0/INT0/FLT0/AN10, 34 RB1/INT1/AN8, 35 RB2/INT2/CANTX, 36 RB3/CANRX, 37 RB4/KBI0/AN9, 38 RB5/KBI1/PGM, 39 RB6/KBI2/PGC, 40 RB7/KBI3/PGD

## pin cr2032_MH
designator CR?
pin
footprint CR2023 L
footprint CR2032 Holder
pins: 1 +, 2 -

## Pin CR 1220_MH
designator Pin?
cr1220
footprint CR1220_MH
pins: 1 +, 2 -

## PL2303
designator IC?
USB - RS232 Converter; Value: PL2303
footprint SO-G28/C6.8 (SSOP, Plastic; 28 Leads; Body Width 5.3 mm; Pitch 0.65 mm)
pins: 1 TXD, 2 DTR_N hidden, 3 RTS_N hidden, 4 VDD_232 hidden to VCC, 5 RXD, 6 RI_N hidden to GND, 7 GND hidden to GND, 8 VDD hidden to VCC, 9 DSR_N hidden to GND, 10 DCD_N hidden to GND, 11 CTS_N hidden to VCC, 12 SHTD_N hidden, 13 EE_CLK hidden, 14 EE_DATA, 15 DP, 16 DM, 17 VDD_3V3, 18 GND_3V3 hidden to GND, 19 RESET hidden to VCC, 20 VDD hidden to VCC, 21 GND hidden to GND, 22 TRI_MODE, 23 LD_MODE, 24 VDD_PLL hidden to VCC, 25 GND_PLL hidden to GND, 26 PLL_TEST hidden to GND, 27 OSC1, 28 OSC2

## PS2801-1 SOP4 IC OPTO TRANS _MH
designator OP?
footprint OP SOP4
pins: 1 A "Anode", 2 K "Cathode", 3 E "Emitter", 4 C "Collector"

## PS2801-4 SOP16 IC OPTO TRANS_MH
designator OP?
footprint SOP16 (Small Outline; 16 Leads; Body Width 5.6 mm; Pitch 1.27 mm)
pins: 1, 2, 3, 4, 5, 6, 7, 8, 9, 10, 11, 12, 13, 14, 15, 16

## PT2248_MH
designator IC?
Remote Control Tranmitter; Value: PT2248
footprint DIP16 (16 PIN, W 300mil, Pin to pin 100mil)
pins: 1 VSS, 2 XT1, 3 XT2, 4 K1, 5 K2, 6 K3, 7 K4, 8 K5, 9 K6, 10 T1, 11 T2, 12 T3, 13 CODE, 14 TEST, 15 TX, 16 VCC

## PT2249_MH
designator IC?
Remote Control Receiver; Value: PT2249
footprint DIP16 (16 PIN, W 300mil, Pin to pin 100mil)
pins: 1 VSS, 2 RX-IN, 3 HP1, 4 HP2, 5 HP3, 6 HP4, 7 HP5, 8 SP5, 9 SP4, 10 SP3, 11 SP2, 12 SP1, 13 CODE2, 14 CODE3, 15 OSC, 16 VCC

## PT2262_MH
designator IC?
Remote Control Encoder
footprint DIP18 (18 PIN, W 300mil, Pin to pin 100mil)
pins: 1 A1, 2 A2, 3 A3, 4 A4, 5 A5, 6 A6, 7 A7/D5, 8 A8/D4, 9 GND, 10 A9/D3, 11 A10/D2, 12 A11/D1, 13 A12/D0, 14 ~{TE}, 15 OSC2, 16 OSC1, 17 DOUT, 18 VCC

## PT2262_SOP20
designator U?  (value not drawn)
footprint SOP-20
pins: 1 A0, 2 A1, 3 A2, 4 A3, 5 A4, 6 A5, 7 A6, 8 A7, 9 VSS, 10 NC, 11 NC, 12 A8/D3, 13 A9/D2, 14 A10/D1, 15 A11/D0, 16 ~{TE}, 17 OSC1, 18 OSC2, 19 DOUT, 20 VCC

## PT2272_MH
designator IC?
Remote Control Decoder
footprint DIP18 (18 PIN, W 300mil, Pin to pin 100mil)
pins: 1 A1, 2 A2, 3 A3, 4 A4, 5 A5, 6 A6, 7 A7, 8 A8, 9 GND, 10 A9/D3, 11 A10/D2, 12 A11/D1, 13 A12/D0, 14 DIN, 15 OSC2, 16 OSC1, 17 VT, 18 VCC

## PT2272_SOP20_MH
designator U?, comment PT2272_SOP20  (value not drawn)
footprint SOP-20
pins: 1 A0, 2 A1, 3 A2, 4 A3, 5 A4, 6 A5, 7 A6, 8 A7, 9 VSS, 10 NC, 11 NC, 12 D3, 13 D2, 14 D1, 15 D0, 16 DIN, 17 OSC2, 18 OSC1, 19 VT, 20 VCC
text: PT2272; SOP20

## Relay 1A 8pin_MH
designator RL?
role 1A_MH
footprint Relay 1A 8pin
pins: 1, 2, 3, 4, 5, 6, 7, 8
text: +; -

## Relay 2A 8pin_MH
designator RL?
rele 2A
footprint RELAY 2A 8pin
pins: 1, 2, 3, 4, 5, 6, 7, 8
text: +; -

## Relay 3A 6pin_MH
designator RL?
role 3A
footprint Relay 3A 6pin
pins: 1, 2, 3, 4, 5, 6

## Relay 5A 4pin_MH
designator RL?
rele 5A
footprint ROLE 5A 4PIN
pins: 1, 2, 3, 4

## Relay 5A 8pin_MH
designator *
footprint Relay 5A 8pin
pins: 1, 2, 3, 4, 5, 6, 7, 8
text: +; -

## Relay 10A 5pin_MH
designator RL?
Relay
footprint relay 10A 5pin
pins: 1, 2, 3, 4, 5

## Relay 24V30A 5C SLA-24VDC-SL-A_MH
designator RL?
Role 30A
footprint Relay 24V30A
pins: 1, 2, 3, 4, 5

## Relay 30A 4 pin_MH
designator RL?
Relay
footprint Relay 30A 4pin
pins: 1, 2, 3, 4

## S8050 SOT23 Trans NPN 0.5A 40V (SMD-J3Y)_MH
designator Q?, comment S8050
footprint SOT23 (SOT-23; 3 Leads; Body 3.1 x 2.5 mm, inc. leads (LxW max), Alternate Lead Configuration)
pins: 1 B, 2 E, 3 C

## S8050 TO92 Trans NPN 0.5A 40V (DIP)_MH
designator Q?, comment S8050
footprint TO92 (TO, Flat Index; 3 In-Line, Axial Leads; Body Dia. 4.8mm)
pins: 1 E, 2 B, 3 C

## S8550 SOT23 Trans PNP 0.5A 40V (SMD-2TY)_MH
designator Q?, comment S8550
footprint SOT23 (SOT-23; 3 Leads; Body 3.1 x 2.5 mm, inc. leads (LxW max), Alternate Lead Configuration)
pins: 1 B, 2 E, 3 C

## S8550 TO92 Trans PNP 0.5A 40V (DIP)_MH
designator Q?, comment S8550
footprint TO92 (TO, Flat Index; 3 In-Line, Axial Leads; Body Dia. 4.8mm)
pins: 1 E, 2 B, 3 C

## S9012 TO92 TRANS PNP 0.5A 40V (DIP)_MH
designator Q?, comment S9012
footprint TO92 (TO, Flat Index; 3 In-Line, Axial Leads; Body Dia. 4.8mm)
pins: 1 E, 2 B, 3 C

## S9013 TO92 TRANS NPN 0.5A 20V (DIP)_MH
designator Q?, comment S9013
footprint TO92 (TO, Flat Index; 3 In-Line, Axial Leads; Body Dia. 4.8mm)
pins: 1 E, 2 B, 3 C

## S9014 SOT23 TRANS NPN 0.1A 45V (SMD-J6)_MH
designator Q?, comment S9014
footprint SOT23 (SOT-23; 3 Leads; Body 3.1 x 2.5 mm, inc. leads (LxW max), Alternate Lead Configuration)
pins: 1 B, 2 E, 3 C

## S9014 TO92 TRANS NPN 0.1A 45V (DIP)_MH
designator Q?, comment S9014
footprint TO92
pins: 1 E, 2 B, 3 C

## S9015 SOT23 TRANS PNP 0.1A 45V (SMD-M6)_MH
designator Q?, comment S9015
footprint SOT23 (SOT-23; 3 Leads; Body 3.1 x 2.5 mm, inc. leads (LxW max), Alternate Lead Configuration)
pins: 1 E, 2 B, 3 C

## S9015 TO92 TRANS PNP 0.1A 45V (DIP)_MH
designator Q?, comment S9015
footprint TO92 (TO, Flat Index; 3 In-Line, Axial Leads; Body Dia. 4.8mm)
pins: 1 E, 2 B, 3 C